# Altium schematic symbol library board.SCHLIB: 471 symbols (part 2 of 5)
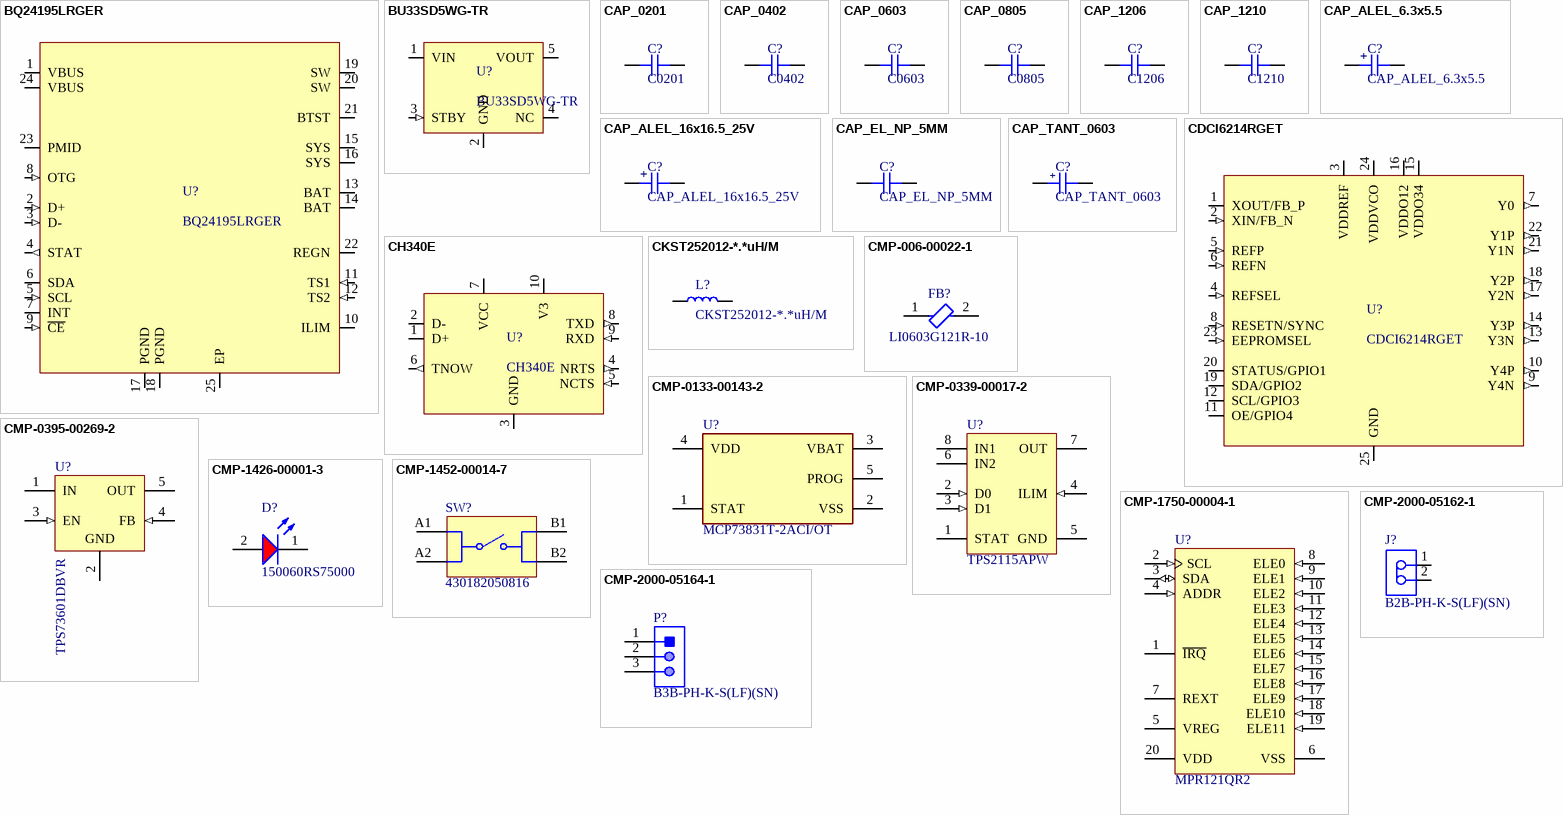
[diagram p30: symbols BQ24195LRGER to CMP-2000-05164-1]

## CMP-0395-00269-2
designator U?, comment TPS73601DBVR
Single Output Low Noise LDO, 400 mA, Adjustable 1.2 to 5.5 V Output, 1.7 to 5.5 V Input, with Reverse Current Protection, 5-pin SOT-23 (DBV), -40 to 85 degC, Green (RoHS & no Sb/Br); Manufacturer: Texas Instruments; Vout Adj(Min)(V): 1.2; Iq(Typ)(mA): 0.3; Accuracy(%): 1; Vin(Max)(V): 5.5; Vdo(Typ)(mV): 75; Iout(Max)(A): 0.4; SubFamily: Single Channel LDO; Rating: Catalog; Vin(Min)(V): 1.7; ComponentLink2Description: Datasheet; ComponentLink3URL: http://www.ti.com/litv/pdf/mpds018i; ComponentLink3Description: Package Specification; Code_JEDEC: MO-178; PackageDescription: 5-Pin Plastic Small Outline, Body 1.60 Ãƒâ€” 2.90 mm, Pitch 0.95 mm; Mounting Technology: Surface Mount; ComponentLink1URL: http://www.ti.com/; ComponentLink2URL: http://www.ti.com/general/docs/lit/getliterature.tsp?genericPartNumber=TPS73601&fileType=pdf; ComponentLink1Description: Manufacturer URL; PackageReference: DBV0005A; PartNumber: TPS73601DBVR; PackageVersion: 4073253-4/K; Eco-Plan: Green (RoHS & no Sb/Br); ComponentLink4URL: Samples URL:http://www.ti.com/product/tps73601#samples; Vout Adj(Max)(V): 5.5; ComponentLink4Description: URL Link1; DatasheetVersion: SBVS038T; Manufacturer Part Number: TPS73601DBVR
footprint DBV0005A_N (SOT23, 5-Leads, Body 3.05x1.75mm, Pitch 0.95mm, IPC Medium Density)
footprint DBV0005A_L (SOT23, 5-Leads, Body 3.05x1.75mm, Pitch 0.95mm, IPC High Density)
footprint DBV0005A_M (SOT23, 5-Leads, Body 3.05x1.75mm, Pitch 0.95mm, IPC Low Density)
pins: 1 IN (power) "Input pin. A small capacitor is needed from this pin to ground to assure stability. Typical input capacitor = 1.0uF. Both input and output capacitor grounds should be tied back to the IC ground with no significant impedance (See Datasheet)", 2 GND (power) "Ground pin.", 3 EN (in) "Driving the enable pin (EN) over 1.2V turns on the regulator. Driving this pin below 0.4V puts the regulator into shutdown mode, reducing operating current to 18nA typical.", 4 FB (in) "Feedback pin (FB) for adjustable versions", 5 OUT (power) "Regulated output voltage pin. A small 1-uF ceramic capacitor is needed from this pin to ground to assure stability.See Input and Output Capacitor Requirements in the Application Information section for more details."

## CMP-1426-00001-3
designator D?, comment 150060RS75000
NexarPartId: 29717776; Manufacturer: Wurth Electronics; Color: Red; Power Dissipation: 72mW; Max Reverse Voltage (DC): 5V; Peak Wavelength: 630nm; Viewing Angle: 140°; Forward Voltage: 2V; Luminous Intensity: 250mcd; Forward Current: 100mA; Dominant Wavelength: 625nm; Lens Style: Clear, Rectangular; Max Junction Temperature (Tj): 95°C; Test Current: 20mA; Mount: Surface Mount; Packaging: Tape and Reel; Case Code (Metric): 1608; Max Operating Temperature: 85°C; Case Code (Imperial): 0603; REACH SVHC: Unknown; Width: 800µm; Length: 1.6mm; Reverse Voltage: 5V; Height: 700µm; Case/Package: 0603; RoHS: Compliant; Wavelength: 625nm; Min Operating Temperature: -40°C; Manufacturer Part Number: 150060RS75000
footprint WL-SMCW_0603_150060xx75000 (WL-SMCW SMT Mono-Color Chip LED Waterclear)
pins: 1 K, 2 A

## CMP-1452-00014-7
designator SW?, comment 430182050816
NexarPartId: 22866491; Manufacturer: Wurth Electronics; Mechanical Life: 1Mcycles; Contact Resistance: 100mΩ; Actuator Length: 1.6mm; Illumination Type: Illuminated, Non-Illuminated; Actuator Material: Liquid Crystal Polymer, Polymer; Switch Function: Off-Mom; Contact Current Rating: 50mA; Throw Configuration: SPST; Switch Travel: 250µm; Voltage Rating: 12V; Min Operating Temperature: -40°C; Color: Black; Max Operating Temperature: 85°C; Life (Cycles): 1Mcycles; Width: 6.2mm; REACH SVHC: No SVHC; Contact Material: Stainless Steel, Steel; Mount: Surface Mount; Height: 5mm; Contact Plating: Silver; Termination: Gull Wing; Diameter: 3.5mm; Lead Free: Lead Free; Voltage Rating (DC): 12V; Packaging: Tape and Reel; Length: 6.2mm; Current Rating: 50mA; Insulation Resistance: 100MΩ; RoHS: Compliant; Manufacturer Part Number: 430182050816
footprint WS-TASV_L6W6H5_4301x20508x6 (Switch Tactile Spst-no 0.05A 12V)
pins: A1, A2, B1, B2

## CMP-1750-00004-1
designator U?, comment MPR121QR2
Proximity Capacitive Touch Sensor Controller, 1.71 to 3.6 V, -40 to 85 degC, 20-Pin QFN, RoHS, Tape and Reel; Manufacturer: NXP Freescale; Current Rating: 2 A; Voltage Rating: 750 V; PackageDescription: 20-Pin Quad Flat No-lead Package, Body 3 x 3 mm, Pitch 0.4 mm; ComponentLink1URL: http://www.nxp.com/; Radiation Hardening: No; RoHSCompliant: True; Package Quantity: 22; Height: 8.64 mm; Min Operating Temperature: -65degC; Max Operating Temperature: 105degC; Mount: Through Hole; ComponentLink1Description: Manufacturer URL; Lead Pitch: 2.54 mm; Width: 3.56 mm; DatasheetVersion: Rev. 4, 02/2013; Length: 25.4 mm; Colour: Black; Pins: 10; Contact Finish: Gold; ComponentLink2Description: Datasheet; Packaging: Rail/Tube; Contact Plating: Gold; ComponentLink2URL: http://www.nxp.com/files/sensors/doc/data_sheet/MPR121.pdf; PackageReference: QFN-20; Contact Material: Bronze; Manufacturer Part Number: MPR121QR2
footprint FREE-QFN-20_L (QFN, 20-Leads, Body 3.00x3.00mm, Pitch 0.40mm, IPC High Density)
footprint FREE-QFN-20_N (QFN, 20-Leads, Body 3.00x3.00mm, Pitch 0.40mm, IPC Medium Density)
footprint FREE-QFN-20_M (QFN, 20-Leads, Body 3.00x3.00mm, Pitch 0.40mm, IPC Low Density)
pins: 1 ~{IRQ} (oc) "Open Collector Interrupt Output Pin, active low", 2 SCL (in) "I2C Clock", 3 SDA (io) "I2C Data", 4 ADDR (in) "I2C Address Select Input Pin.", 5 VREG (power) "Internal Regulator Node - Connect a 0.1 uF bypass cap to VSS", 6 VSS (power) "Ground", 7 REXT "External Resistor - Connect a 75 kOhm 1% resistor to VSS to set internal reference current", 8 ELE0 (in) "Electrode 0", 9 ELE1 (in) "Electrode 1", 10 ELE2 (in) "Electrode 2", 11 ELE3 (in) "Electrode 3", 12 ELE4 (in) "Electrode 4", 13 ELE5 (in) "Electrode 5", 14 ELE6 (in) "Electrode 6", 15 ELE7 (in) "Electrode 7", 16 ELE8 (in) "Electrode 8", 17 ELE9 (in) "Electrode 9", 18 ELE10 (in) "Electrode 10", 19 ELE11 (in) "Electrode 11", 20 VDD (power) "Connect a 0.1 uF bypass cap to VSS"

## CMP-2000-05162-1
designator J?, comment B2B-PH-K-S(LF)(SN)
Male Header, Pitch 2 mm, 1 x 2 Position, Height 6 mm, Tail Length 3.4 mm, -25 to 85 degC, RoHS, Bulk; Manufacturer: JST; Manufacturer Part Number: B2BPHKSLFSN; Pitch: 2mm; Style/Orientation: StraightHeader/Plug; No of Positions: 2; Datasheet Version: Nov-08; Datasheet URL: http://datasheet.octopart.com/B2B-PH-K-S%28LF%29%28SN%29-JST-datasheet-8324864.pdf; Manufacturer URL: http://www.jst.com/home2.html; Type: ShroudedHeader; Termination: Crimp
footprint JST-B2B-PH-K-S_V (Connector, 2-Leads, Body 5.9x4.5mm, Pitch 2mm)
pins: 1, 2

## CMP-2000-05164-1
designator P?, comment B3B-PH-K-S(LF)(SN)
Male Header, Pitch 2 mm, 1 x 3 Position, Height 6 mm, Tail Length 3.4 mm, -25 to 85 degC, RoHS, Bulk; Manufacturer: JST; Style/Orientation: StraightHeader/Plug; Pitch: 2mm; No of Positions: 3; Termination: Crimp; Manufacturer URL: http://www.jst.com/home2.html; Datasheet Version: Oct-06; Type: ShroudedHeader; Datasheet URL: https://datasheet.ciiva.com/11746/0900766b80826550-11746939.pdf; Manufacturer Part Number: B3B-PH-K-S(LF)(SN)
footprint JST-B3B-PH-K-S-3_V (Connector, 3-Leads, Body 7.9x4.5mm, Pitch 2mm)
pins: 1, 2, 3

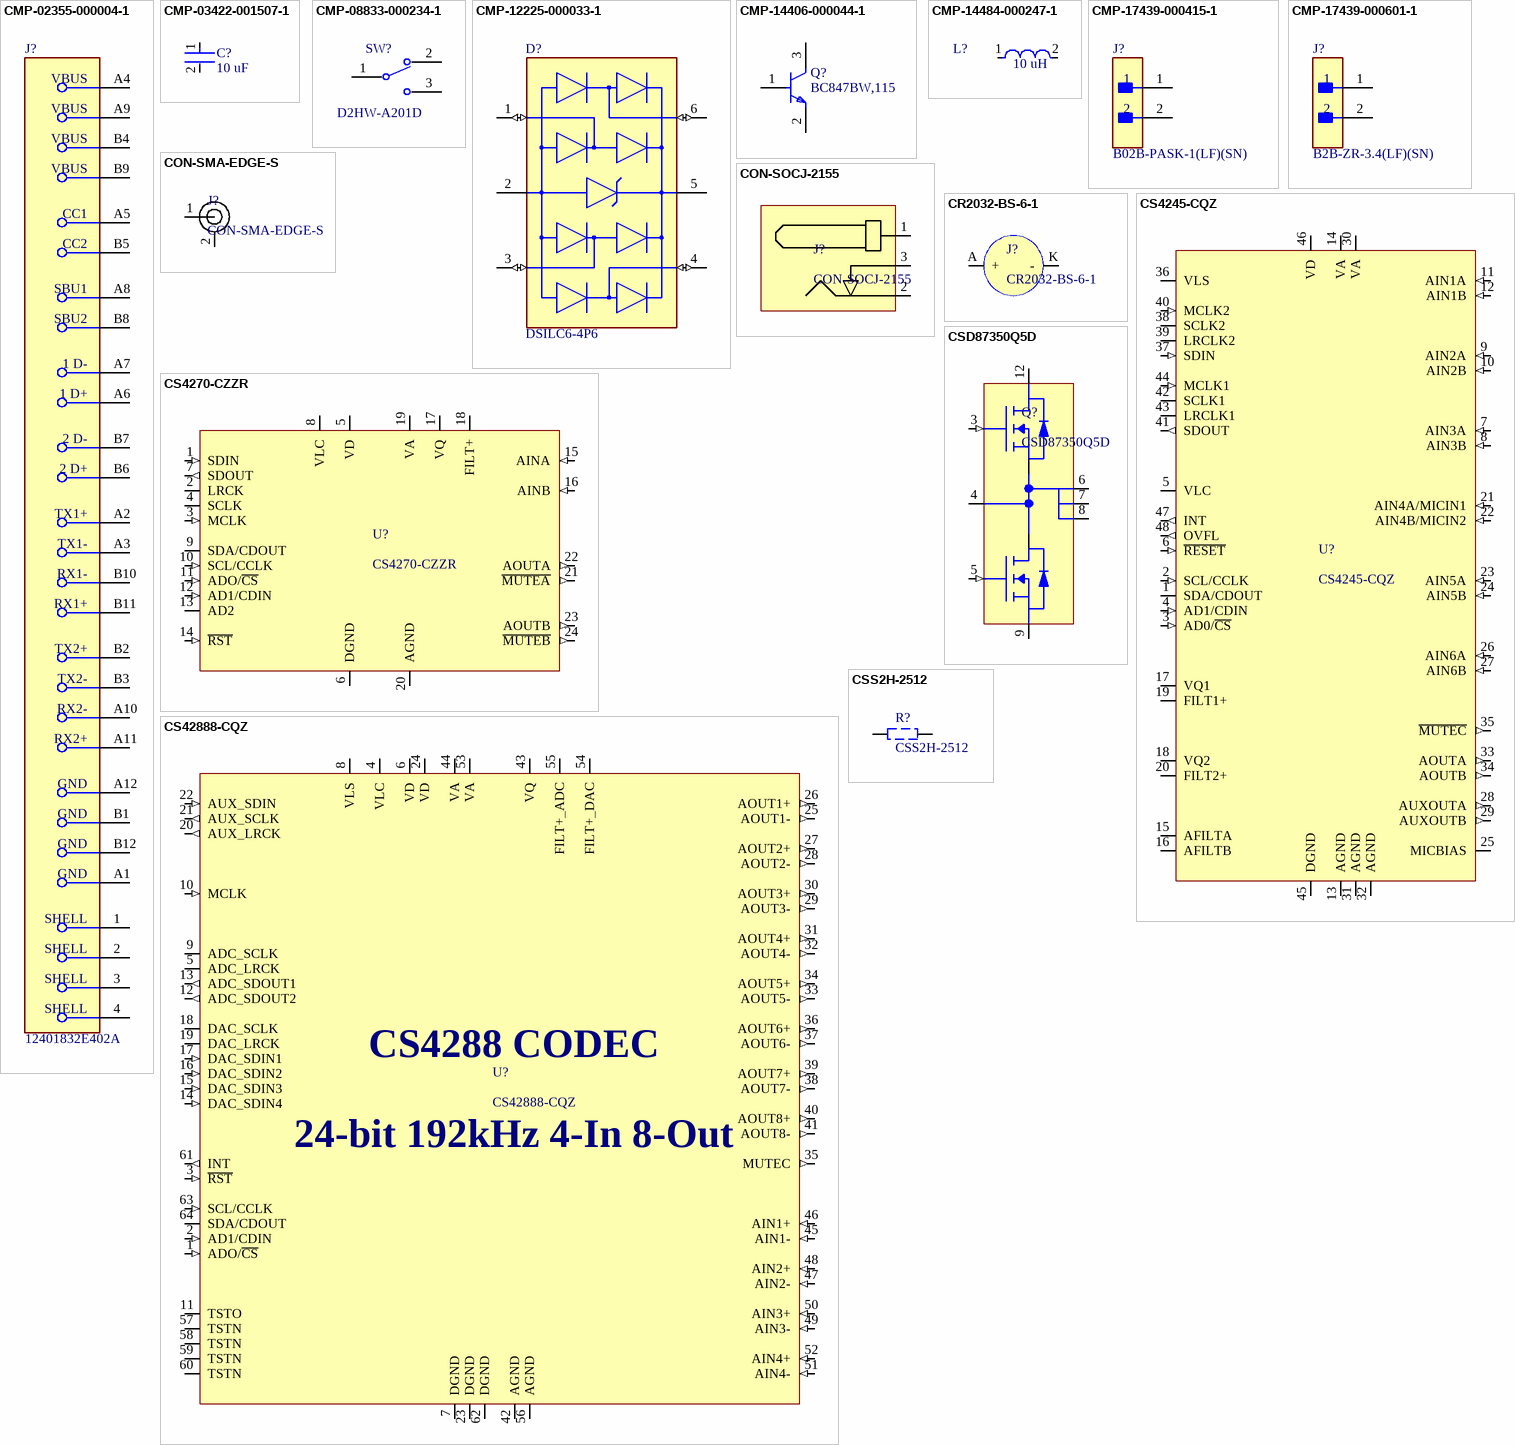
[diagram p7: symbols CMP-02355-000004-1 to CSS2H-2512]

## CMP-02355-000004-1
designator J?, comment 12401832E402A
CONN RCP USB3.1 TYPEC 24P SMD RA; Manufacturer: Amphenol; Manufacturer Part Number: 12401832E402A
footprint FP-12401832E402A-MFG
pins: 1 SHELL (power), 2 SHELL, 3 SHELL, 4 SHELL (power), A1 GND, A2 TX1+, A3 TX1-, A4 VBUS, A5 CC1 (power), A6 1 D+, A7 1 D-, A8 SBU1 (power), A9 VBUS (power), A10 RX2-, A11 RX2+, A12 GND (power), B1 GND, B2 TX2+, B3 TX2-, B4 VBUS, B5 CC2 (power), B6 2 D+, B7 2 D-, B8 SBU2 (power), B9 VBUS (power), B10 RX1- (power), B11 RX1+ (power), B12 GND (power)

## CMP-03422-001507-1
designator C?, comment 10 uF
CAP CER 10UF 10V X5R 0603; Manufacturer: Yageo; Manufacturer Part Number: CC0603KRX5R6BB106; Tolerance: 10%; Case/Package: 0603; Length: 0.063inch; Capacitance: 10uF; Dielectric: X5R; Mount: Surface Mount; Case Code (Metric): 1608; Depth: 0.8mm; Voltage Rating (DC): 10V; Voltage Rating: 10V; Lead Free: Lead Free; Resistor Type: Ceramic; Packaging: Tape and Reel; Max Operating Temperature: 85°C; Termination: SMD/SMT; Min Operating Temperature: -55°C; Weight: 7.1E-05oz; Thickness: 0.035inch; Case Code (Imperial): 0603; Package Quantity: 4000; Halogen Free: Halogen Free; RoHS Compliant: Yes; Width: 0.031inch
footprint FP-CC0603-DC-IPC_A
footprint FP-CC0603-DC-IPC_B
footprint FP-CC0603-DC-IPC_C
footprint FP-CC0603-DC-MFG
pins: 1, 2

## CMP-08833-000234-1
designator SW?, comment D2HW-A201D
SWITCH SNAP ACT SPDT 100MA 125V; Manufacturer: Omron; Mechanical Life: 1000000Cycles; Actuator Type: PIN PLUNGER; Contact Current Rating: 2A; Number of Positions: 2; Operating Position: 0.409inch; Operating Force: 0.75N; Differential Travel: 0.01inch; Number of Poles: 1; Electrical Life: 100000Cycles; Max Voltage Rating (DC): 42V; Overtravel: 0.055inch; Insulation Resistance: 100MR; Switch Function: On-Mom; Ratings: IP67; Voltage Rating (DC): 12V; Lead Length: 2.5mm; Contact Material: Gold; Voltage Rating (AC): 125V; Min Operating Temperature: -40°C; Depth: 5.3mm; Mount: Through Hole; Orientation: Straight; Packaging: Bulk; Lead Free: Lead Free; Max Current Rating: 2A; Throw Configuration: SPDT; Termination: PC Pins; Contact Plating: Gold; Max Voltage Rating (AC): 125V; Length: 13.3mm; Current Rating: 2A; Series: D2HW; Max Operating Temperature: 85°C; Package Quantity: 500; Weight: 0.7g; RoHS Compliant: Yes; Manufacturer Part Number: D2HW-A201D
footprint FP-D2HW-A201D-MFG
pins: 1 COM, 2 NC, 3 NO

## CMP-12225-000033-1
designator D?, comment DSILC6-4P6
TVS DIODE 5V SOT666; Manufacturer: STMicroelectronics; Number Of Channels: 4; Breakdown Voltage: 6V; Direction: Unidirectional; Peak Pulse Power: 90W; Capacitance: 1.5pF; Max Junction Temp: +125°C; Peak Pulse Current: 5A; Value: 1.5pF; Mouser Description: DSILC6 Series 4 Channel 6 V Uni-Directional Diode Array - SOT-666; Device Class L2: TVS Diodes; ComponentLink2URL: https://www.st.com/resource/en/datasheet/dsilc6-4xx.pdf; Category: Diode; Automotive: No; Lead Free: Yes; ComponentLink2Description: Datasheet; Octopart: https://octopart.com/dsilc6-4p6-stmicroelectronics-660265; Reverse Standoff Voltage: 5V; Height: 0.6mm; Package: SOT-666; Device Class L3: unset; Manufacturer Part Number: DSILC6-4P6; Temperature: to +125°C; Digikey Description: TVS DIODE 5V SOT666; Temperature Range High: +125°C; RoHS: TRUE; Device Class L1: Circuit Protection
footprint FP-SOT-666-MFG
pins: 1 I/O1 (io), 2 GND (power), 3 I/O2 (io), 4 I/O3 (io), 5 VCC (power), 6 I/O4 (io)

## CMP-14406-000044-1
designator Q?, comment BC847BW,115
TRANS NPN 45V 100MA SOT323; Manufacturer: Nexperia; RoHS Compliant: Yes; Manufacturer Part Number: BC847BW,115
footprint FP-SOT323-MFG
footprint FP-SOT323-IPC_C
footprint FP-SOT323-IPC_B
footprint FP-SOT323-IPC_A
pins: 1 B, 2 E, 3 C

## CMP-14484-000247-1
designator L?, comment 10 uH
SMD Inductors 10uH ±10% 0.38A 0.468Ω 0603; Manufacturer: Taiyo Yuden; Manufacturer Part Number: CBMF1608T100K; Saturation Current: 115mA; Max DC Current: 380mA; DC Resistance (DCR): 468mR; Shielding: Unshielded; Core Material: Ferrite; Self Resonant Frequency: 32MHz; Test Frequency: 2.52MHz; RoHS Compliant: Yes; Case Code (Metric): 1608; Height: 0.8mm; Inductance Tolerance: 10%; Series: CB; Packaging: Tape and Reel; Width: 0.031inch; Case Code (Imperial): 0603; Tolerance: 10%; Radiation Hardening: No; Inductance: 10uH; Resistor Type: Wirewound; Termination: SMD/SMT; Height - Seated (Max): 0.039inch; Mount: Surface Mount; Halogen Free: Halogen Free; Min Operating Temperature: -40°C; Current Rating: 380mA; Lead Free: Lead Free; DC Current: 380mA; Package Quantity: 3000; Case/Package: 0603; Length: 0.063inch; Max Operating Temperature: 105°C; Depth: 1mm; Military Standard: Not
footprint FP-CBMF1608-IPC_A
footprint FP-CBMF1608-IPC_C
footprint FP-CBMF1608-MFG
footprint FP-CBMF1608-IPC_B
pins: 1, 2

## CMP-17439-000415-1
designator J?, comment B02B-PASK-1(LF)(SN)
CONN HEADER VERT 2POS 2MM; Manufacturer: JST; Number of Contacts: 2; Current Rating: 3A; Insulation Resistance: 1GR; Mated Stacking Heights: 14.9mm; Voltage Rating: 250V; Gender: Male; Pitch: 2mm; Orientation: Straight; Contact Finish - Mating: TIN; Mount: Through Hole; Contact Type: Male Pin; Number of Rows: 1; Fastening Type: Ramp; Series: PA; Connector Type: Header; Insulation Color: Natural; Flammability Rating: UL94 V-0; Material: Polybutylene; Contact Shape: Square; Contact Plating: Tin; Insulation Material: PBT; Max Operating Temperature: 85°C; Housing Color: White; Number of Positions: 2; Contact Material: Copper Alloy; Min Operating Temperature: -25°C; Lead Free: Lead Free; Contact Mating Length: 0.126inch; Termination: Solder; Packaging: Bulk; Color: Natural; Manufacturer Part Number: B02B-PASK-1(LF)(SN)
footprint FP-B02B-PASK-1_LF_SN-MFG
pins: 1, 2

## CMP-17439-000601-1
designator J?, comment B2B-ZR-3.4(LF)(SN)
CONN HEADER VERT 2POS 1.5MM; Manufacturer: JST; Mated Stacking Heights: 5.6mm; Voltage Rating: 50V; Number of Positions: 2; Termination: Press-Fit; Insulation Color: Natural; Pitch: 1.5mm; Number of Rows: 1; Fastening Type: Detent; Insulation Material: Nylon; Contact Shape: Circular; Lead Free: Lead Free; Series: ZH; Connector Type: Header; Contact Type: Male Pin; Packaging: Bulk; Contact Finish - Mating: TIN; Mount: Through Hole; Contact Material: Brass; Flammability Rating: UL94 V-0; Manufacturer Part Number: B2B-ZR-3.4(LF)(SN)
footprint FP-B2B-ZR-3_4_LF_SN-MFG
pins: 1, 2

## CON-SMA-EDGE-S
designator J?
RF Connector SMA Female 50 Ohms 18 GHz PCB Edge Mount; Manufacturer: RF Solutions; Manufacturer Part Number: CON-SMA-EDGE-S
footprint CON-SMA-EDGE-S
pins: 1, 2

## CON-SOCJ-2155
designator J?
DC Barrell Jack 2.1mm 30V 2.5A THT; Manufacturer: Gravitech; Manufacturer Part Number: CON-SOCJ-2155
footprint CON-SOCJ-2155
pins: 1, 2, 3

## CR2032-BS-6-1
designator J?
CR2032 Coin Cell Battery Holder; Manufacturer: Q&J; Manufacturer Part Number: CR2032-BS-6-1
footprint CR2032
pins: A +, K -

## CS4245-CQZ
designator U?
104 dB, 24-Bit, 192 kHz Stereo Audio Codec; Manufacturer: Cirrus Logic; Manufacturer Part Number: CS4245-CQZ
footprint LQFP-48
pins: 1 SDA/CDOUT (io), 2 SCL/CCLK (in), 3 AD0/~{CS} (in), 4 AD1/CDIN (in), 5 VLC (power), 6 ~{RESET} (in), 7 AIN3A (in), 8 AIN3B (in), 9 AIN2A (in), 10 AIN2B (in), 11 AIN1A (in), 12 AIN1B (in), 13 AGND (power), 14 VA (power), 15 AFILTA (power), 16 AFILTB (power), 17 VQ1 (power), 18 VQ2 (power), 19 FILT1+ (power), 20 FILT2+ (power), 21 AIN4A/MICIN1 (in), 22 AIN4B/MICIN2 (in), 23 AIN5A (in), 24 AIN5B (in), 25 MICBIAS (power), 26 AIN6A (in), 27 AIN6B (in), 28 AUXOUTA (out), 29 AUXOUTB (out), 30 VA (power), 31 AGND (power), 32 AGND (power), 33 AOUTA (out), 34 AOUTB (out), 35 ~{MUTEC} (out), 36 VLS (power), 37 SDIN (in), 38 SCLK2 (io), 39 LRCLK2 (io), 40 MCLK2 (in), 41 SDOUT (out), 42 SCLK1 (io), 43 LRCLK1 (io), 44 MCLK1 (in), 45 DGND (power), 46 VD (power), 47 INT (out), 48 OVFL (out)

## CS4270-CZZR
designator U?
24-Bit 192kHz Stereo Audio Codec TSSOP-24; Manufacturer: Cirrus Logic; Manufacturer Part Number: CS4270-CZZR
footprint TSSOP-24
pins: 1 SDIN (in), 2 LRCK (io), 3 MCLK (in), 4 SCLK (io), 5 VD (power), 6 DGND (power), 7 SDOUT (out), 8 VLC (power), 9 SDA/CDOUT (io), 10 SCL/CCLK (in), 11 ADO/~{CS} (in), 12 AD1/CDIN (in), 13 AD2, 14 ~{RST} (in), 15 AINA (in), 16 AINB (in), 17 VQ (power), 18 FILT+ (power), 19 VA (power), 20 AGND (power), 21 ~{MUTEA} (out), 22 AOUTA (out), 23 AOUTB (out), 24 ~{MUTEB} (out)

## CS42888-CQZ
designator U?
CODEC 108dB 192kHz 4-In 8-Out LQFP-64 Commercial Grade; Manufacturer: Cirrus Logic; Manufacturer Part Number: CS42888-CQZ
footprint LQFP-64-0.5mm (TSQFP, 64-Leads, Body 10.00x10.00mm, Pitch 0.50mm, IPC Medium Density)
pins: 1 ADO/~{CS} (in), 2 AD1/CDIN (in), 3 ~{RST} (in), 4 VLC (power), 5 ADC_LRCK (io), 6 VD (power), 7 DGND (power), 8 VLS (power), 9 ADC_SCLK (io), 10 MCLK (in), 11 TSTO, 12 ADC_SDOUT2 (out), 13 ADC_SDOUT1 (out), 14 DAC_SDIN4 (in), 15 DAC_SDIN3 (in), 16 DAC_SDIN2 (in), 17 DAC_SDIN1 (in), 18 DAC_SCLK (io), 19 DAC_LRCK (io), 20 AUX_LRCK (out), 21 AUX_SCLK (out), 22 AUX_SDIN (in), 23 DGND (power), 24 VD (power), 25 AOUT1- (out), 26 AOUT1+ (out), 27 AOUT2+ (out), 28 AOUT2- (out), 29 AOUT3- (out), 30 AOUT3+ (out), 31 AOUT4+ (out), 32 AOUT4- (out), 33 AOUT5- (out), 34 AOUT5+ (out), 35 MUTEC (out), 36 AOUT6+ (out), 37 AOUT6- (out), 38 AOUT7- (out), 39 AOUT7+ (out), 40 AOUT8+ (out), 41 AOUT8- (out), 42 AGND (power), 43 VQ (power), 44 VA (power), 45 AIN1- (in), 46 AIN1+ (in), 47 AIN2- (in), 48 AIN2+ (in), 49 AIN3- (in), 50 AIN3+ (in), 51 AIN4- (in), 52 AIN4+ (in), 53 VA (power), 54 FILT+_DAC (power), 55 FILT+_ADC (power), 56 AGND (power), 57 TSTN, 58 TSTN, 59 TSTN, 60 TSTN, 61 INT (out), 62 DGND (power), 63 SCL/CCLK (in), 64 SDA/CDOUT (io)
text: CS4288 CODEC; 24-bit 192kHz 4-In 8-Out

## CSD87350Q5D
designator Q?
Synchronous Buck NexFET™ Power Block; Manufacturer: Texas Instruments; Manufacturer Part Number: CSD87350Q5D; Distributor Link: https://eu.mouser.com/ProductDetail/Texas-Instruments/CSD87350Q5D?qs=JoYuLptCJEEhVuDl%2F9%2FpHA%3D%3D; LCSC: C140356
footprint LSON-CLIP-8
pins: 3 TG (in), 4 TGR, 5 BG (in), 6 VSW (power), 7 VSW (power), 8 VSW (power), 9 PGND (power), 12 VIN (power), D, S

## CSS2H-2512
designator R?
Current Sense Resistor SMD CSS2H-2512; Manufacturer: Bourns; Manufacturer Part Number: CSS2H-2512
footprint CSS2H-2512
pins: 1, 2

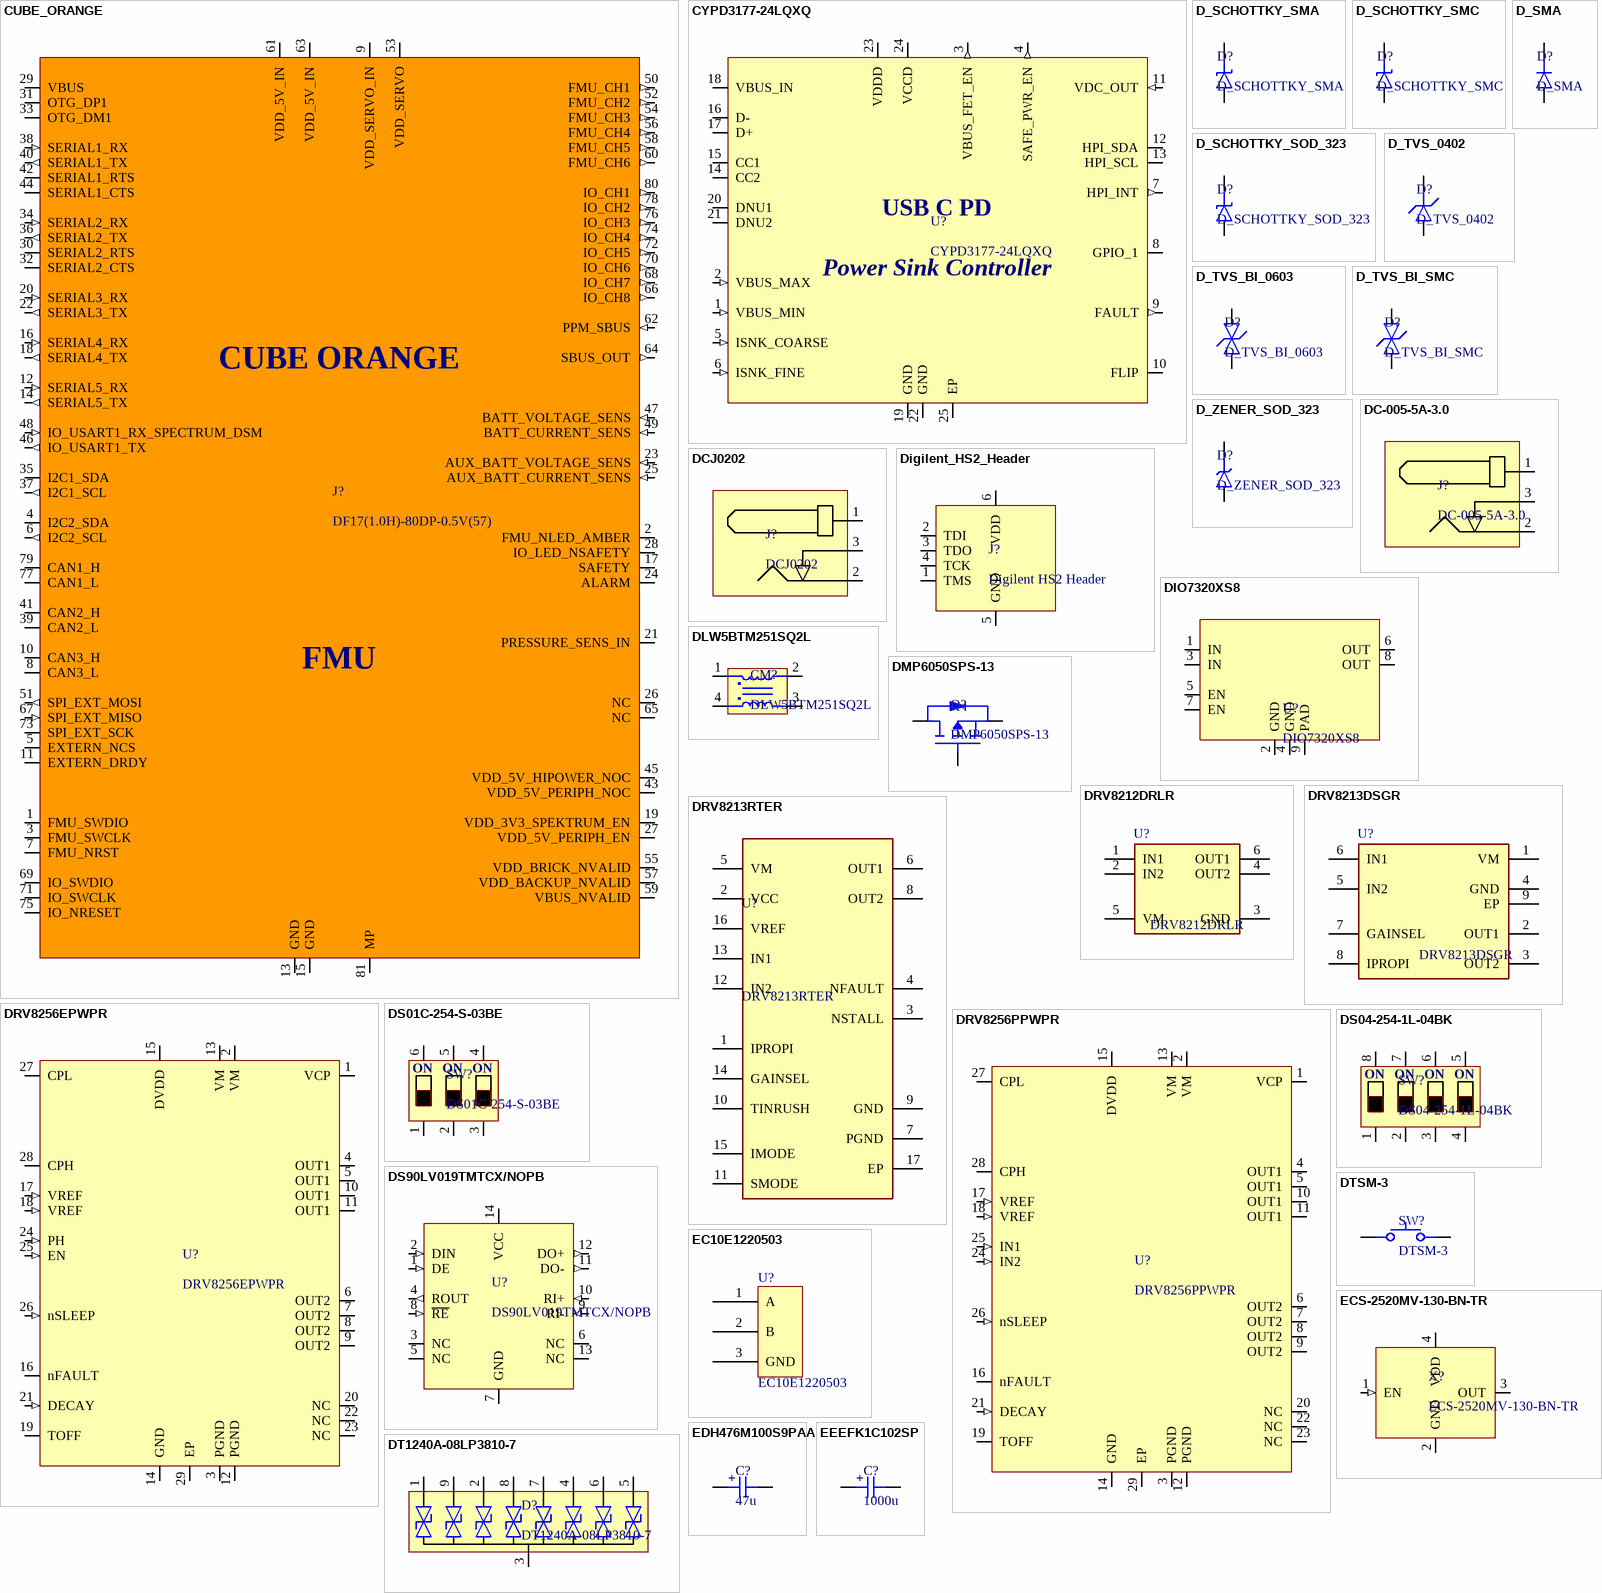
[diagram p8: symbols CUBE_ORANGE to EEEFK1C102SP]

## CUBE_ORANGE
designator J?, comment DF17(1.0H)-80DP-0.5V(57)
Cube Orange Pinout (Hirose DF17(1.0H)-80DP-0.5V(57) Connector); Manufacturer: Hirose; Manufacturer Part Number: DF17(1.0H)-80DP-0.5V(57)
footprint CUBE_ORANGE
pins: 1 FMU_SWDIO, 2 FMU_NLED_AMBER, 3 FMU_SWCLK, 4 I2C2_SDA (io), 5 EXTERN_NCS, 6 I2C2_SCL (out), 7 FMU_NRST, 8 CAN3_L (io), 9 VDD_SERVO_IN, 10 CAN3_H (io), 11 EXTERN_DRDY, 12 SERIAL5_RX (in), 13 GND, 14 SERIAL5_TX (out), 15 GND, 16 SERIAL4_RX (in), 17 SAFETY, 18 SERIAL4_TX (out), 19 VDD_3V3_SPEKTRUM_EN, 20 SERIAL3_RX (in), 21 PRESSURE_SENS_IN, 22 SERIAL3_TX (out), 23 AUX_BATT_VOLTAGE_SENS (in), 24 ALARM, 25 AUX_BATT_CURRENT_SENS (in), 26 NC, 27 VDD_5V_PERIPH_EN, 28 IO_LED_NSAFETY, 29 VBUS, 30 SERIAL2_RTS, 31 OTG_DP1 (io), 32 SERIAL2_CTS, 33 OTG_DM1 (io), 34 SERIAL2_RX (in), 35 I2C1_SDA (io), 36 SERIAL2_TX (out), 37 I2C1_SCL (out), 38 SERIAL1_RX (in), 39 CAN2_L (io), 40 SERIAL1_TX (out), 41 CAN2_H (io), 42 SERIAL1_RTS, 43 VDD_5V_PERIPH_NOC, 44 SERIAL1_CTS, 45 VDD_5V_HIPOWER_NOC, 46 IO_USART1_TX (out), 47 BATT_VOLTAGE_SENS (in), 48 IO_USART1_RX_SPECTRUM_DSM (in), 49 BATT_CURRENT_SENS (in), 50 FMU_CH1 (out), 51 SPI_EXT_MOSI (out), 52 FMU_CH2 (out), 53 VDD_SERVO, 54 FMU_CH3 (out), 55 VDD_BRICK_NVALID, 56 FMU_CH4 (out), 57 VDD_BACKUP_NVALID, 58 FMU_CH5 (out), 59 VBUS_NVALID, 60 FMU_CH6 (out), 61 VDD_5V_IN, 62 PPM_SBUS (in), 63 VDD_5V_IN, 64 SBUS_OUT (out), 65 NC, 66 IO_CH8 (out), 67 SPI_EXT_MISO (in), 68 IO_CH7 (out), 69 IO_SWDIO, 70 IO_CH6 (out), 71 IO_SWCLK, 72 IO_CH5 (out), 73 SPI_EXT_SCK, 74 IO_CH4 (out), 75 IO_NRESET, 76 IO_CH3 (out), 77 CAN1_L (io), 78 IO_CH2 (out), 79 CAN1_H (io), 80 IO_CH1 (out), 81 MP
text: CUBE ORANGE; FMU

## CYPD3177-24LQXQ
designator U?
USB Type-C Port Controller for Power Sinks; Manufacturer: Cypress Semicon; Manufacturer Part Number: CYPD3177-24LQXQ; Distributor Link: https://www.lcsc.com/product-detail/USB-ICs_Cypress-Semicon-CYPD3177-24LQXQ_C2959321.html
footprint QFN-24-0MM5
pins: 1 VBUS_MIN (in), 2 VBUS_MAX (in), 3 VBUS_FET_EN (out), 4 SAFE_PWR_EN (out), 5 ISNK_COARSE (in), 6 ISNK_FINE (in), 7 HPI_INT (out), 8 GPIO_1 (io), 9 FAULT (out), 10 FLIP (oc), 11 VDC_OUT (in), 12 HPI_SDA (oc), 13 HPI_SCL (oc), 14 CC2 (io), 15 CC1 (io), 16 D-, 17 D+, 18 VBUS_IN (power), 19 GND (power), 20 DNU1, 21 DNU2, 22 GND (power), 23 VDDD (power), 24 VCCD (power), 25 EP (power)
text: USB C PD; Power Sink Controller

## D_SCHOTTKY_SMA
designator D?
Diode Schottky SMD SMA (DO-214AA)
footprint DO-214AC-2 (SMA)
pins: A, K

## D_SCHOTTKY_SMC
designator D?
Diode Schottky SMD SMC (DO-214AB); Distributor Link: *
footprint SMC-DO-214AB
pins: A, K

## D_SCHOTTKY_SOD_323
designator D?
Diode Schottky SMD SOD-323
footprint SOD-323
pins: A, K

## D_SMA
designator D?
Diode SMD SMA (DO-214AA)
footprint DO-214AC-2 (SMA)
pins: A, K

## D_TVS_0402
designator D?
Diode TVS / ESD 0402
footprint D_0402
pins: A, K

## D_TVS_BI_0603
designator D?
Diode TVS / ESD Bidirectional 0603; Manufacturer: *; Manufacturer Part Number: *
footprint D_0603
pins: A, K

## D_TVS_BI_SMC
designator D?
Diode TVS / ESD Bidirectional SMC (DO-214AB); Manufacturer: *; Manufacturer Part Number: *; Distributor Link: *
footprint SMC-DO-214AB
pins: A, K

## D_ZENER_SOD_323
designator D?
Diode Zener SMD SOD-323
footprint SOD-323
pins: A, K

## DC-005-5A-3.0
designator J?
DC Barrell Jack 6.2mm 5 A3.0mm Through Hole; Parameter 1: XKB; Parameter 2: DC-005-5A-3.0
footprint DC-005-5A-3.0
pins: 1, 2, 3

## DCJ0202
designator J?
DC Barrell Jack 2.1mm 24V 5A THT; Manufacturer: CONEC; Manufacturer Part Number: DCJ0202
footprint DCJ0202
pins: 1, 2, 3

## Digilent_HS2_Header
designator J?, comment Digilent HS2 Header
Digilent HS2 6-Pin 2.54mm Pitch Header; Manufacturer: Amphenol FCI; Manufacturer Part Number: 68000-406HLF
footprint DIGILENT_HS2
pins: 1 TMS, 2 TDI, 3 TDO, 4 TCK, 5 GND (power), 6 VDD (power)

## DIO7320XS8
designator U?
Power Distribution 5.5V 5A Load switch with slew rate control and reverse current blocking; Manufacturer: DIOO; Manufacturer Part Number: DIO7320XS8
footprint SOIC127P600X165_HS-9N (SOIC, 8-Leads, Body 4.90x3.90mm, Pitch 1.27mm, Thermal Pad 3.10x2.21mm, IPC Medium Density)
pins: 1 IN, 2 GND, 3 IN, 4 GND, 5 EN, 6 OUT, 7 EN, 8 OUT, 9 PAD

## DLW5BTM251SQ2L
designator CM?
Common Mode Choke 5A 250R 20mR; Manufacturer: Murata; Manufacturer Part Number: DLW5BTM251SQ2L; Distributor Link: https://www.mouser.de/ProductDetail/Murata-Electronics/DLW5BTM251SQ2L?qs=6RPrPjhwTH9TmsO%252BRNiuwA%3D%3D; LCSC: C576407
footprint CMC-2020
pins: 1, 2, 3, 4

## DMP6050SPS-13
designator Q?
MOSFET P-Channel Vds=60V Vgs=+-20V Id=26A Rds(on|=50mOhms; Manufacturer: Diodes Incorporated; Manufacturer Part Number: DMP6050SPS-13
footprint PowerDI5060-8
pins: 1 D, 2 G, 3 S

## DRV8212DRLR
designator U?
Motor / Motion / Ignition Controllers & Drivers 12-V, 2-A Low voltage H-bridge motor driver; Manufacturer_Name: Texas Instruments; Geometry.Height: 0.6mm; Mouser Part Number: 595-DRV8212DRLR; Mouser Price/Stock: https://www.mouser.co.uk/ProductDetail/Texas-Instruments/DRV8212DRLR?qs=7D1LtPJG0i3wtDTC%2FUQdKg%3D%3D; Manufacturer_Part_Number: DRV8212DRLR; Datasheet Link: https://www.ti.com/lit/ds/symlink/drv8212.pdf?ts=1631761675954&ref_url=https%253A%252F%252Fwww.ti.com%252Fstore%252Fti%252Fen%252Fp%252Fproduct%252F%253Fp%253DDRV8212DRLR%2526keyMatch%253DDRV8212DRLR%2526tisearch%253Dsearch-everything%2526usecase%253DOPN
footprint SOTFL50P160X60-6N
pins: 1 IN1, 2 IN2, 3 GND, 4 OUT2, 5 VM, 6 OUT1

## DRV8213DSGR
designator U?
Motor Drives 11-V 4-A brushed DC motor driver with intergrated current sense, current regulation and stall detect 8-WSON -40 to 125; Manufacturer_Name: Texas Instruments; Geometry.Height: 0.8mm; Mouser Part Number: 595-DRV8213DSGR; Mouser Price/Stock: https://www.mouser.co.uk/ProductDetail/Texas-Instruments/DRV8213DSGR?qs=HoCaDK9Nz5fr9x8VVVVBBg%3D%3D; Manufacturer_Part_Number: DRV8213DSGR; Datasheet Link: https://www.ti.com/lit/ds/symlink/drv8213.pdf?ts=1703739910534&ref_url=https%253A%252F%252Fwww.ti.com.cn%252Fproduct%252Fcn%252FDRV8213
footprint SON50P200X200X80-9N
pins: 1 VM, 2 OUT1, 3 OUT2, 4 GND, 5 IN2, 6 IN1, 7 GAINSEL, 8 IPROPI, 9 EP

## DRV8213RTER
designator U?
Motor / Motion / Ignition Controllers & Drivers DUAL H-BRIDGE MOTOR DRIVER; Manufacturer_Name: Texas Instruments; Geometry.Height: 0.8mm; Mouser Part Number: 595-DRV8213RTER; Mouser Price/Stock: https://www.mouser.co.uk/ProductDetail/Texas-Instruments/DRV8213RTER?qs=Z%252BL2brAPG1IeTjuoL4HNsw%3D%3D; Manufacturer_Part_Number: DRV8213RTER; Datasheet Link: https://www.ti.com/lit/ds/symlink/drv8213.pdf
footprint QFN50P300X300X80-17N-D
pins: 1 IPROPI, 2 VCC, 3 NSTALL, 4 NFAULT, 5 VM, 6 OUT1, 7 PGND, 8 OUT2, 9 GND, 10 TINRUSH, 11 SMODE, 12 IN2, 13 IN1, 14 GAINSEL, 15 IMODE, 16 VREF, 17 EP

## DRV8256EPWPR
designator U?
H-Bridge Motor Driver With Integrated Current Sense, 4.5V to 48V, 8A; Manufacturer: Texas Instruments; Manufacturer Part Number: DRV8256EPWPR
footprint TSSOP-28-PowerPAD (TSOP, 28-Leads, Body 9.70x4.40mm, Pitch 0.65mm, Thermal Pad 4.05x3.10mm, IPC Medium Density)
pins: 1 VCP (power), 2 VM (power), 3 PGND (power), 4 OUT1 (power), 5 OUT1 (power), 6 OUT2 (power), 7 OUT2 (power), 8 OUT2 (power), 9 OUT2 (power), 10 OUT1 (power), 11 OUT1 (power), 12 PGND (power), 13 VM (power), 14 GND (power), 15 DVDD (power), 16 nFAULT (oc), 17 VREF (in), 18 VREF (in), 19 TOFF, 20 NC, 21 DECAY (in), 22 NC, 23 NC, 24 PH (in), 25 EN (in), 26 nSLEEP (in), 27 CPL (power), 28 CPH (power), 29 EP (power)

## DRV8256PPWPR
designator U?
H-Bridge Motor Driver With Integrated Current Sense, 4.5V to 48V, 8A; Manufacturer: Texas Instruments; Manufacturer Part Number: DRV8256PPWPR
footprint TSSOP-28-PowerPAD (TSOP, 28-Leads, Body 9.70x4.40mm, Pitch 0.65mm, Thermal Pad 4.05x3.10mm, IPC Medium Density)
pins: 1 VCP (power), 2 VM (power), 3 PGND (power), 4 OUT1 (power), 5 OUT1 (power), 6 OUT2 (power), 7 OUT2 (power), 8 OUT2 (power), 9 OUT2 (power), 10 OUT1 (power), 11 OUT1 (power), 12 PGND (power), 13 VM (power), 14 GND (power), 15 DVDD (power), 16 nFAULT (oc), 17 VREF (in), 18 VREF (in), 19 TOFF, 20 NC, 21 DECAY (in), 22 NC, 23 NC, 24 IN2 (in), 25 IN1 (in), 26 nSLEEP (in), 27 CPL (power), 28 CPH (power), 29 EP (power)

## DS01C-254-S-03BE
designator SW?
DIP Switch SPST 3 Positions Short Pins 2.54mm Pitch; Manufacturer: CUI Devices; Manufacturer Part Number: DS01C-254-S-03BE
footprint DS01C-254-S-03BE
pins: 1, 2, 3, 4, 5, 6
text: ON

## DS04-254-1L-04BK
designator SW?
DIP Switch SPST 4 Positions Short Pins 2.54mm Pitch; Manufacturer: CUI Devices; Manufacturer Part Number: DS04-254-1L-04BK; Distributor Link: https://www.mouser.de/ProductDetail/CUI-Devices/DS04-254-1L-04BK?qs=wnTfsH77Xs6GCysQKZgHrw%3D%3D
footprint DS04-254-1L-04BK
pins: 1, 2, 3, 4, 5, 6, 7, 8
text: ON

## DS90LV019TMTCX/NOPB
designator U?
LVDS Driver/Receiver; Manufacturer: Texas Instruments; Manufacturer Part Number: DS90LV019TMTCX/NOPB; Distributor Link: https://eu.mouser.com/ProductDetail/Texas-Instruments/DS90LV019TMTCX-NOPB?qs=X1J7HmVL2ZGfxU9NrWVkiA%3D%3D; LCSC: C87061
footprint TSSOP-14
pins: 1 DE (in), 2 DIN (in), 3 NC, 4 ROUT (out), 5 NC, 6 NC, 7 GND (power), 8 ~{RE} (in), 9 RI- (in), 10 RI+ (in), 11 DO- (out), 12 DO+ (out), 13 NC, 14 VCC (power)

## DT1240A-08LP3810-7
designator D?
8-CHANNEL LOW CAPACITANCE TVS DIODE ARRAY 0.6pF; Manufacturer: Diodes Incorporated; Manufacturer Part Number: DT1240A-08LP3810-7
footprint DFN3810B-9
pins: 1 L1, 2 L3, 3 GND (power), 4 L6, 5 L8, 6 L7, 7 L5, 8 L4, 9 L2

## DTSM-3
designator SW?
Tactile Switch SMD SPST; Manufacturer: Diptronics; Manufacturer Part Number: DTSM-3
footprint DTSM-3
pins: 1, 2

## EC10E1220503
designator U?
footprint EC10E1220503
pins: 1 A, 2 B, 3 GND

## ECS-2520MV-130-BN-TR
designator X?
Standard Clock Oscillators XO (Standard),13MHz,Standby (Power Down),CMOS, Multi-Volt,1.6 V 3.6 V,+/-50ppm,-40 C 85 C,6mA,Surface Mount,4-SMD, No Lead,(2.50mm x 2.00mm),(0.80mm); Manufacturer: ECS; Manufacturer Part Number: ECS-2520MV-130-BN-TR
footprint SSOP5
footprint XTAL_2520
pins: 1 EN (in), 2 GND (power), 3 OUT, 4 VDD (power)

## EDH476M100S9PAA
designator C?, comment 47u
Capacitor SMD Aluminium Electrolytic 10.3x10.3x10.2mm 47uF 100V 170mA 2000hrs; Manufacturer: KEMET; Manufacturer Part Number: 170mA
footprint EDH476M100S9PAA
pins: 1, 2
text: +

## EEEFK1C102SP
designator C?, comment 1000u
Capacitor SMD Aluminium Electrolytic 10mm x 10.2mm 16V 20% 2000hrs; Manufacturer: Panasonic; Manufacturer Part Number: EEEFK1C102SP; LCSC: C178532
footprint CAPAE120103X105N (Aluminum Electrolytic Capacitor, Body 10.30x10.30x10.50mm, IPC Medium Density)
pins: 1, 2
text: +

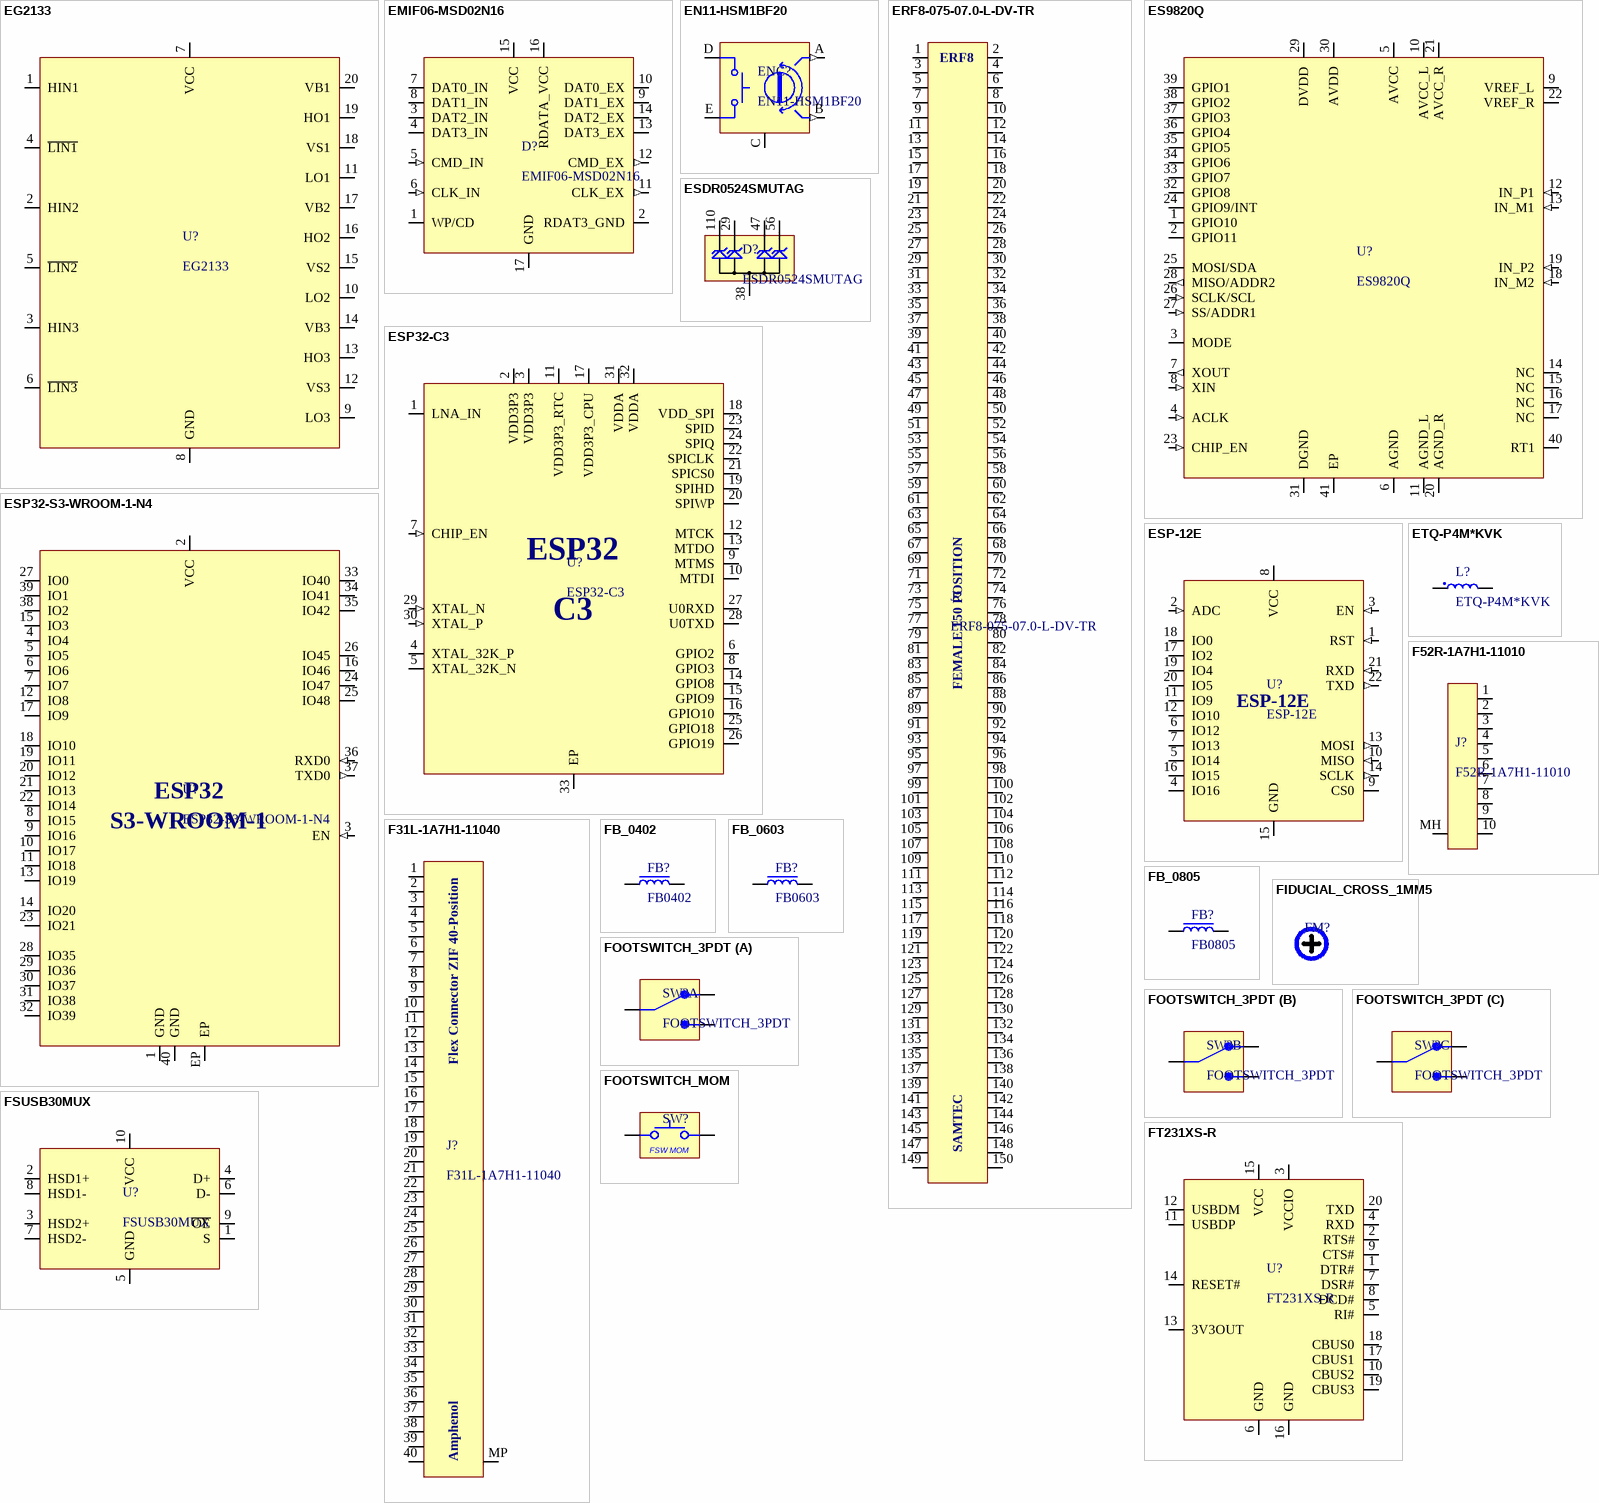
[diagram p9: symbols EG2133 to FT231XS-R]

## EG2133
designator U?
Triple Half-Bridge Gate Driver IC TSSOP-20; Manufacturer: EG Micro; Manufacturer Part Number: EG2133; LCSC Part #: C405330
footprint TSSOP-20 (TSOP, 20-Leads, Body 6,50x4,40mm, Pitch 0,65mm, IPC Medium Density)
pins: 1 HIN1, 2 HIN2, 3 HIN3, 4 ~{LIN1}, 5 ~{LIN2}, 6 ~{LIN3}, 7 VCC, 8 GND, 9 LO3, 10 LO2, 11 LO1, 12 VS3, 13 HO3, 14 VB3, 15 VS2, 16 HO2, 17 VB2, 18 VS1, 19 HO1, 20 VB1

## EMIF06-MSD02N16
designator D?
6-line IPAD EMI filter and ESD protection; Manufacturer: STMicroelectronics; Manufacturer Part Number: EMIF06-MSD02N16; Distributor Link: https://www.mouser.de/ProductDetail/STMicroelectronics/EMIF06-MSD02N16?qs=1CGoW%2F3pMwpSqVuN8kmN4Q%3D%3D; LCSC: C5267594
footprint uQFN-3_5x1_2-16L
pins: 1 WP/CD, 2 RDAT3_GND, 3 DAT2_IN (io), 4 DAT3_IN (io), 5 CMD_IN (in), 6 CLK_IN (in), 7 DAT0_IN (io), 8 DAT1_IN (io), 9 DAT1_EX (io), 10 DAT0_EX (io), 11 CLK_EX (out), 12 CMD_EX (out), 13 DAT3_EX (io), 14 DAT2_EX (io), 15 VCC (power), 16 RDATA_VCC (power), 17 GND (power)

## EN11-HSM1BF20
designator ENC?
Rotary Encoder with Switch 20 Detents 7mm Bushing 20mm Threaded Shaft Vertical; Manufacturer: TT Electronics; Manufacturer Part Number: EN11-HSM1BF20; Distributor Link: https://www.mouser.de/ProductDetail/BI-Technologies-TT-Electronics/EN11-HSM1BF20?qs=%252BUYXD5bnyXp4Uf1MU7v3zw%3D%3D
footprint EN11-HSM
pins: A (out), B (out), C GND (power), D, E

## ERF8-075-07.0-L-DV-TR
designator J?
Mezzanine Connector Female Samtec 0.80 mm Edge Rate® Rugged High Speed Socket; Manufacturer: Samtec; Manufacturer Part Number: ERF8-075-07.0-L-DV-TR
footprint ERF8-075-07.0-L-DV-TR
pins: 1, 2, 3, 4, 5, 6, 7, 8, 9, 10, 11, 12, 13, 14, 15, 16, 17, 18, 19, 20, 21, 22, 23, 24, 25, 26, 27, 28, 29, 30, 31, 32, 33, 34, 35, 36, 37, 38, 39, 40, 41, 42, 43, 44, 45, 46, 47, 48, 49, 50, 51, 52, 53, 54, 55, 56, 57, 58, 59, 60, 61, 62, 63, 64, 65, 66, 67, 68, 69, 70, 71, 72, 73, 74, 75, 76, 77, 78, 79, 80, 81, 82, 83, 84, 85, 86, 87, 88, 89, 90, 91, 92, 93, 94, 95, 96, 97, 98, 99, 100, 101, 102, 103, 104, 105, 106, 107, 108, 109, 110, 111, 112, 113, 114, 115, 116, 117, 118, 119, 120, 121, 122, 123, 124, 125, 126, 127, 128, 129, 130, 131, 132, 133, 134, 135, 136, 137, 138, 139, 140, 141, 142, 143, 144, 145, 146, 147, 148, 149, 150
text: ERF8; FEMALE 150 POSITION; SAMTEC

## ES9820Q
designator U?
32-bit High-Performance 2-Channel ADC; Manufacturer: ESS Technology; Manufacturer Part Number: ES9820Q
footprint QFN-40-0.4-EP (QFN 40 Pads 0.4mm Pitch Thermal Pad)
pins: 1 GPIO10 (io), 2 GPIO11 (io), 3 MODE, 4 ACLK (in), 5 AVCC (power), 6 AGND (power), 7 XOUT (out), 8 XIN (in), 9 VREF_L (power), 10 AVCC_L (power), 11 AGND_L (power), 12 IN_P1 (in), 13 IN_M1 (in), 14 NC, 15 NC, 16 NC (hiz), 17 NC, 18 IN_M2 (in), 19 IN_P2 (in), 20 AGND_R (power), 21 AVCC_R (power), 22 VREF_R (power), 23 CHIP_EN (in), 24 GPIO9/INT (io), 25 MOSI/SDA (io), 26 SCLK/SCL (in), 27 SS/ADDR1 (in), 28 MISO/ADDR2 (out), 29 DVDD (power), 30 AVDD (power), 31 DGND (power), 32 GPIO8 (io), 33 GPIO7 (io), 34 GPIO6 (io), 35 GPIO5 (io), 36 GPIO4 (io), 37 GPIO3 (io), 38 GPIO2 (io), 39 GPIO1 (io), 40 RT1, 41 EP (power)

## ESDR0524SMUTAG
designator D?
TVS Diode Array Low Capacitance ESD Protection 4-Channel (Vwork=5V, Vclamp=15V); Manufacturer: onsemi; Manufacturer Part Number: ESDR0524SMUTAG; Distributor Link: https://www.mouser.de/ProductDetail/onsemi/ESDR0524SMUTAG?qs=NJQfjRgVp6Qe%2FuopsuIgOg%3D%3D; LCSC: C890633
footprint uDFN-10-WIDE
pins: 29, 38 GND, 47, 56, 110

## ESP32-C3
designator U?
Ultra­Low­Power SoC with RISC­V Single­Core CPU Supporting IEEE 802.11b/g/n (2.4 GHz Wi­Fi) and Bluetooth® 5 (LE); Manufacturer: Espressif; Manufacturer Part Number: ESP32-C3; LCSC: C2838500
footprint QFN32-5x5
pins: 1 LNA_IN (io), 2 VDD3P3 (power), 3 VDD3P3 (power), 4 XTAL_32K_P (io), 5 XTAL_32K_N (io), 6 GPIO2 (io), 7 CHIP_EN (in), 8 GPIO3 (io), 9 MTMS (io), 10 MTDI (io), 11 VDD3P3_RTC (power), 12 MTCK (io), 13 MTDO (io), 14 GPIO8 (io), 15 GPIO9 (io), 16 GPIO10 (io), 17 VDD3P3_CPU (power), 18 VDD_SPI (power), 19 SPIHD (io), 20 SPIWP (io), 21 SPICS0 (io), 22 SPICLK (io), 23 SPID (io), 24 SPIQ (io), 25 GPIO18 (io), 26 GPIO19 (io), 27 U0RXD (io), 28 U0TXD (io), 29 XTAL_N (in), 30 XTAL_P (in), 31 VDDA (power), 32 VDDA (power), 33 EP (power)
text: ESP32; C3

## ESP32-S3-WROOM-1-N4
designator U?
2.4 GHz Wi-Fi (802.11 b/g/n) and Bluetooth 5 (LE) Module ESP32-S3, 4MB Flash, on-board PCB antenna); Manufacturer: Espressif; Manufacturer Part Number: ESP32-S3-WROOM-1-N4; Distributor Link: https://www.mouser.de/ProductDetail/Espressif-Systems/ESP32-S3-WROOM-1-N4?qs=Li%252BoUPsLEnsO%2FkiJOUK0FQ%3D%3D
footprint ESP32-S3-WROOM-1
pins: 1 GND (power), 2 VCC (power), 3 EN (in), 4 IO4 (io), 5 IO5 (io), 6 IO6 (io), 7 IO7 (io), 8 IO15 (io), 9 IO16 (io), 10 IO17 (io), 11 IO18 (io), 12 IO8 (io), 13 IO19 (io), 14 IO20 (io), 15 IO3 (io), 16 IO46 (io), 17 IO9 (io), 18 IO10 (io), 19 IO11 (io), 20 IO12 (io), 21 IO13 (io), 22 IO14 (io), 23 IO21 (io), 24 IO47 (io), 25 IO48 (io), 26 IO45 (io), 27 IO0 (io), 28 IO35 (io), 29 IO36 (io), 30 IO37 (io), 31 IO38 (io), 32 IO39 (io), 33 IO40 (io), 34 IO41 (io), 35 IO42 (io), 36 RXD0 (in), 37 TXD0 (out), 38 IO2 (io), 39 IO1 (io), 40 GND (power), EP (power)
text: ESP32; S3-WROOM-1

## ESP-12E
designator U?
ESP8266 ESP-12E Module (ESP8266, Castellated Holes); Manufacturer: AI-THINKER; Manufacturer Part Number: ESP-12E; Distributor Link: *
footprint ESP-12E
pins: 1 RST (in), 2 ADC (in), 3 EN (in), 4 IO16 (io), 5 IO14 (io), 6 IO12 (io), 7 IO13 (io), 8 VCC (power), 9 CS0 (io), 10 MISO (in), 11 IO9 (io), 12 IO10 (io), 13 MOSI (out), 14 SCLK (out), 15 GND (power), 16 IO15 (io), 17 IO2 (io), 18 IO0 (io), 19 IO4 (io), 20 IO5 (io), 21 RXD (in), 22 TXD (out)

## ETQ-P4M*KVK
designator L?
Inductor Power SMD PCC-M0840M-LP Series; Manufacturer: Panasonic; Manufacturer Part Number: ETQ-P4M*KVK; Distributor Link: *; LCSC: *
footprint IND_1008
footprint ETQP4M-KVK
pins: 1, 2

## F31L-1A7H1-11040
designator J?
Flex Connector, 0.50mm Pitch, Height 2.55mm, Right angle, Flip type, ZIF, 40 position; Manufacturer: Amphenol; Manufacturer Part Number: F31L-1A7H1-11040; Distributor Link: https://www.mouser.de/ProductDetail/Amphenol-Aorora/F31L-1A7H1-11040?qs=xZ%2FP%252Ba9zWqYDodVHBk05qA%3D%3D
footprint F31L-1A7H1-11040
pins: 1, 2, 3, 4, 5, 6, 7, 8, 9, 10, 11, 12, 13, 14, 15, 16, 17, 18, 19, 20, 21, 22, 23, 24, 25, 26, 27, 28, 29, 30, 31, 32, 33, 34, 35, 36, 37, 38, 39, 40, MP
text: Flex Connector ZIF 40-Position

## F52R-1A7H1-11010
designator J?
FFC/FPC Connector 1.00mm Pitch Bottom Contact ZIF 10 Positions; Manufacturer: Amphenol; Manufacturer Part Number: F52R-1A7H1-11010
footprint F52R-1A7H1-11010
pins: 1, 2, 3, 4, 5, 6, 7, 8, 9, 10, MH

## FB_0402
designator FB?, comment FB0402
Ferrite Bead SMD 0402; Manufacturer: *; Manufacturer Part Number: *; Distributor Link: *; LCSC: *
footprint FB_0402
pins: 1, 2

## FB_0603
designator FB?, comment FB0603
Ferrite Bead SMD 0603; Manufacturer: *; Manufacturer Part Number: *; Distributor Link: *; LCSC: *
footprint FB_0603 (Ferrite Bead 0603)
pins: 1, 2

## FB_0805
designator FB?, comment FB0805
Ferrite Bead SMD 0805; Manufacturer: *; Manufacturer Part Number: *; Distributor Link: *; LCSC: *
footprint FB_0805
pins: 1, 2

## FIDUCIAL_CROSS_1MM5
designator FM?, comment Fiducial Marker  (value not drawn)  (no BOM)
Fiducial Marker Cross 1.5mm NO BOM
footprint FIDUCIAL_CROSS_1MM5

## FOOTSWITCH_3PDT
designator SW?
Generic 3PDT Footswitch; Manufacturer: *; Manufacturer Part Number: *; Link: https://lovemyswitches.com/3pdt-latched-foot-switch-solder-lugs-black/
footprint FOOTSWITCH_3PDT
part A pins: COM1, NC1, NO1
part B pins: COM2, NC2, NO2
part C pins: COM3, NC3, NO3

## FOOTSWITCH_MOM
designator SW?  (value not drawn)
Header 2.54mm THT for Momentary SPST Footswitch
footprint SKRPANE010
footprint FOOTSWITCH_MOM
pins: 1, 2
text: FSW MOM

## FSUSB30MUX
designator U?
USB 2.0 High-Speed Switch MSOP-10; Manufacturer: ONSemi; Manufacturer Part Number: FSUSB30MUX
footprint MSOP-10
pins: 1 S, 2 HSD1+, 3 HSD2+, 4 D+, 5 GND, 6 D-, 7 HSD2-, 8 HSD1-, 9 ~{OE}, 10 VCC

## FT231XS-R
designator U?
USB Interface IC USB to Full Serial UART IC SSOP-20; Manufacturer: FTDI; Manufacturer Part Number: FT231XS-R
footprint SSOP20
pins: 1 DTR#, 2 RTS#, 3 VCCIO, 4 RXD, 5 RI#, 6 GND, 7 DSR#, 8 DCD#, 9 CTS#, 10 CBUS2, 11 USBDP, 12 USBDM, 13 3V3OUT, 14 RESET#, 15 VCC, 16 GND, 17 CBUS1, 18 CBUS0, 19 CBUS3, 20 TXD

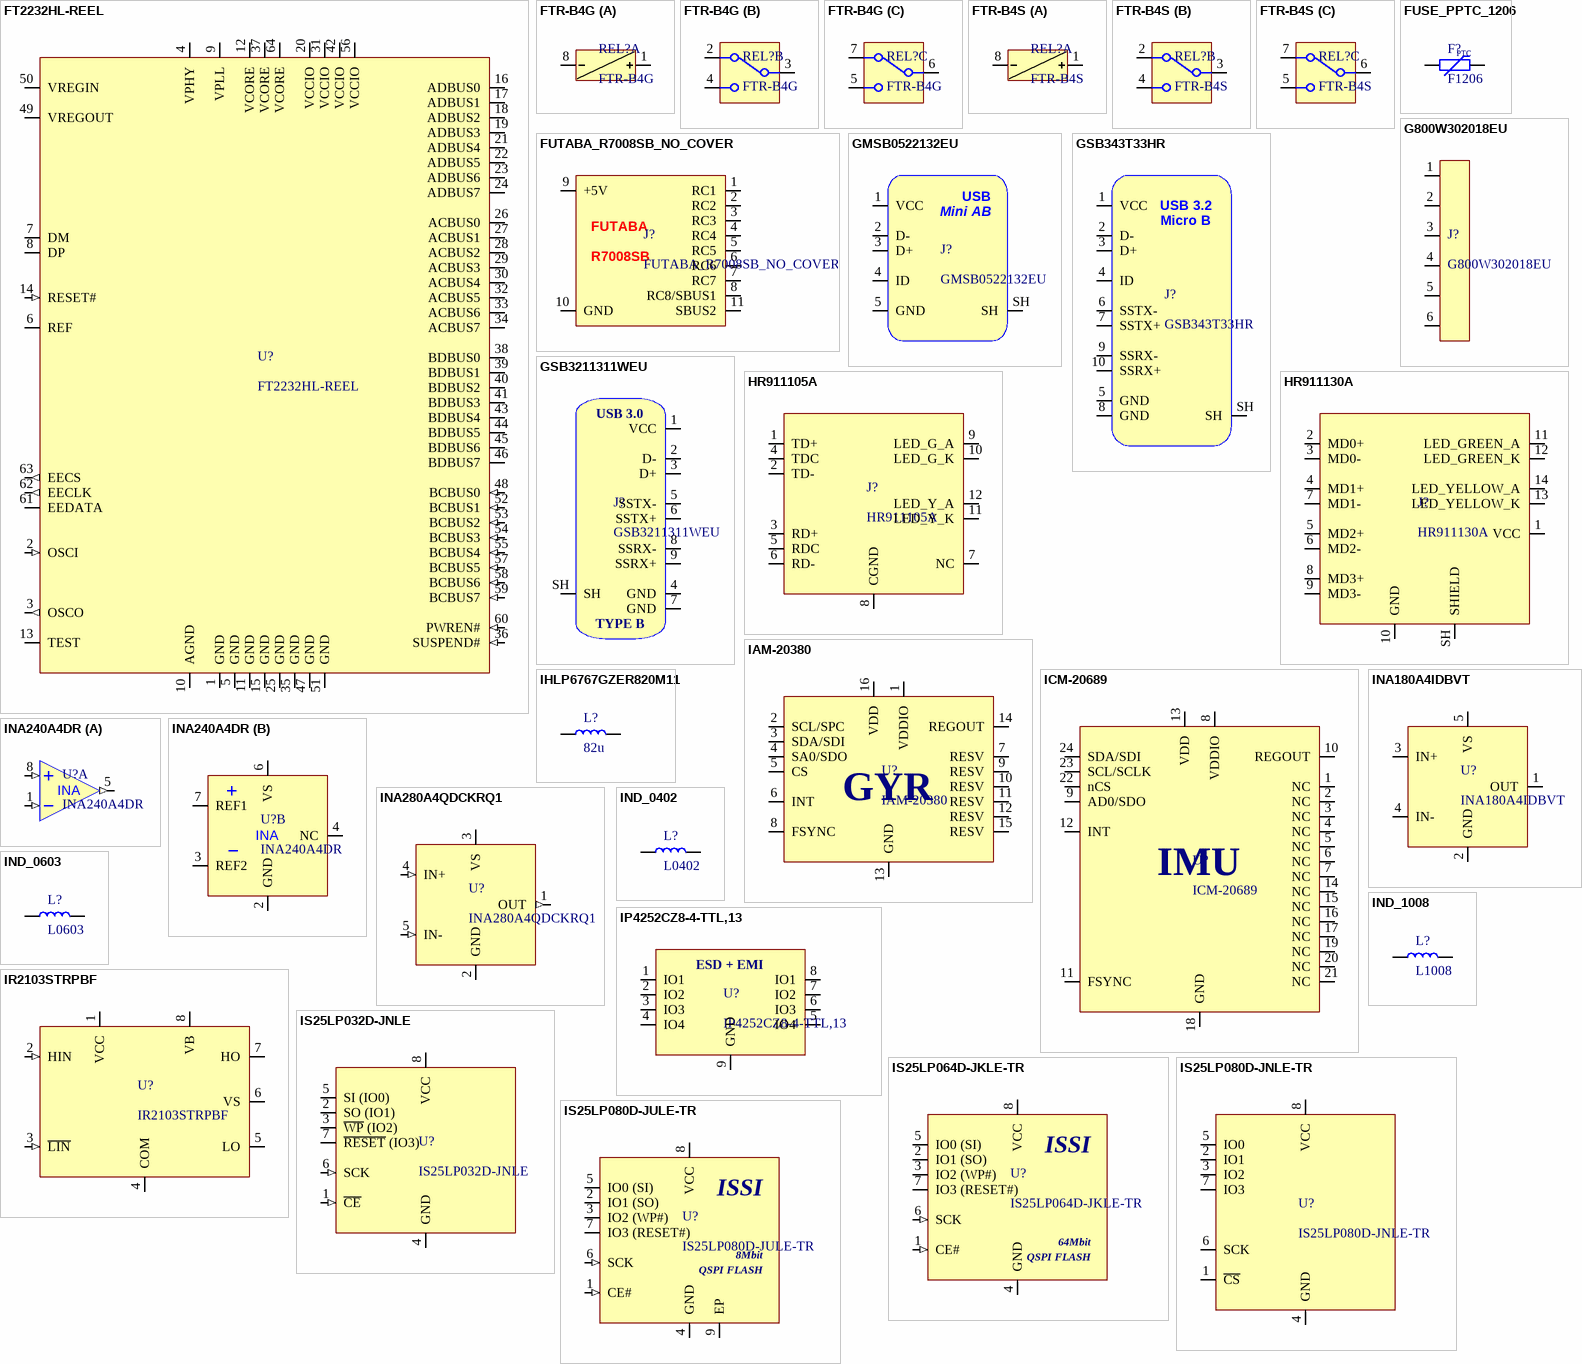
[diagram p10: symbols FT2232HL-REEL to IS25LP080D-JULE-TR]

## FT2232HL-REEL
designator U?
Hi-Speed Dual USB UART/FIFO IC; Manufacturer: FTDI; Manufacturer Part Number: FT2232HL-REEL; Distributor Link: https://www.mouser.de/ProductDetail/FTDI/FT2232HL-REEL?qs=D1%2FPMqvA100v7FHcEx164g%3D%3D; LCSC: C27882
footprint LQFP-64-0.5mm (TSQFP, 64-Leads, Body 10.00x10.00mm, Pitch 0.50mm, IPC Medium Density)
pins: 1 GND (power), 2 OSCI (in), 3 OSCO (out), 4 VPHY (power), 5 GND (power), 6 REF, 7 DM (io), 8 DP (io), 9 VPLL (power), 10 AGND (power), 11 GND (power), 12 VCORE (power), 13 TEST, 14 RESET# (in), 15 GND (power), 16 ADBUS0 (io), 17 ADBUS1 (io), 18 ADBUS2 (io), 19 ADBUS3 (io), 20 VCCIO (power), 21 ADBUS4 (io), 22 ADBUS5 (io), 23 ADBUS6 (io), 24 ADBUS7 (io), 25 GND (power), 26 ACBUS0 (io), 27 ACBUS1 (io), 28 ACBUS2 (io), 29 ACBUS3 (io), 30 ACBUS4 (io), 31 VCCIO (power), 32 ACBUS5 (io), 33 ACBUS6 (io), 34 ACBUS7 (io), 35 GND (power), 36 SUSPEND# (in), 37 VCORE (power), 38 BDBUS0 (io), 39 BDBUS1 (io), 40 BDBUS2 (io), 41 BDBUS3 (io), 42 VCCIO (power), 43 BDBUS4 (io), 44 BDBUS5 (io), 45 BDBUS6 (io), 46 BDBUS7 (io), 47 GND (power), 48 BCBUS0 (in), 49 VREGOUT (power), 50 VREGIN (power), 51 GND (power), 52 BCBUS1 (in), 53 BCBUS2 (in), 54 BCBUS3 (in), 55 BCBUS4 (in), 56 VCCIO (power), 57 BCBUS5 (in), 58 BCBUS6 (in), 59 BCBUS7 (in), 60 PWREN# (in), 61 EEDATA (io), 62 EECLK (out), 63 EECS (out), 64 VCORE (power)

## FTR-B4G
designator REL?
Ultra-Miniature Relay DPDT SMT; Manufacturer: Fujitsu; Manufacturer Part Number: FTR-B4G
footprint FTR-B4G
part A pins: 1 VCC, 8 VSS
part B pins: 2 NC1, 3 COM1, 4 NO1
part C pins: 5 NO2, 6 COM2, 7 NC2

## FTR-B4S
designator REL?
Ultra-Miniature Relay DPDT Space-Saving; Manufacturer: Fujitsu; Manufacturer Part Number: FTR-B4S
footprint FTR-B4S
part A pins: 1 VCC, 8 VSS
part B pins: 2 NC1, 3 COM1, 4 NO1
part C pins: 5 NO2, 6 COM2, 7 NC2

## FUSE_PPTC_1206
designator F?, comment F1206
Fuse PPTC SMD 1206; Manufacturer: *; Manufacturer Part Number: *
footprint FUSE_1206
pins: 1, 2
text: PTC

## FUTABA_R7008SB_NO_COVER
designator J?  (no BOM)
Futaba R7008SB Solder Pads
footprint FUTABA_R7008SB_NO_COVER
pins: 1 RC1, 2 RC2, 3 RC3, 4 RC4, 5 RC5, 6 RC6, 7 RC7, 8 RC8/SBUS1, 9 +5V, 10 GND, 11 SBUS2
text: FUTABA; R7008SB

## G800W302018EU
designator J?
Pin Header 6 Position 2.54mm Pitch; Manufacturer: Amphenol; Manufacturer Part Number: G800W302018EU
footprint G800W302018EU
pins: 1, 2, 3, 4, 5, 6

## GMSB0522132EU
designator J?
USB 2.0 Mini AB Receptacle Right Angle Through-Hole; Manufacturer: Amphenol; Manufacturer Part Number: GMSB0522132EU
footprint GMSB0522132EU
pins: 1 VCC (power), 2 D- (io), 3 D+ (io), 4 ID, 5 GND (power), SH (power)
text: USB; Mini AB

## GSB343T33HR
designator J?
Micro USB 3.2, Type B, Receptacle, Right Angle SMT, High Rise, 5.25mm Height, 10 Pins, Shell with Nickel Plating, 30μin Gold, Black Housing; Manufacturer: Amphenol; Manufacturer Part Number: GSB343T33HR; Distributor Link: https://www.mouser.de/ProductDetail/Amphenol-Commercial-Products/GSB343T33HR?qs=8nwx9VzGl4wjI7K6xpTSyQ%3D%3D; LCSC: C5428255
footprint GSB343T33HR
pins: 1 VCC (power), 2 D- (power), 3 D+ (power), 4 ID, 5 GND (power), 6 SSTX- (io), 7 SSTX+ (io), 8 GND (power), 9 SSRX- (io), 10 SSRX+ (io), SH
text: USB 3.2; Micro B

## GSB3211311WEU
designator J?
USB Connector Type B 3.0 Through-Hole; Manufacturer: Amphenol; Manufacturer Part Number: GSB3211311WEU
footprint GSB3211311WEU
pins: 1 VCC, 2 D-, 3 D+, 4 GND, 5 SSTX-, 6 SSTX+, 7 GND, 8 SSRX-, 9 SSRX+, SH
text: USB 3.0; TYPE B

## HR911105A
designator J?
Single Port RJ45 Connector w/ Integrated Magnetic and LED 10/100 Base-T; Manufacturer: HanRun; Manufacturer Part Number: HR911105A
footprint HR911105A
pins: 1 TD+, 2 TD-, 3 RD+, 4 TDC, 5 RDC, 6 RD-, 7 NC, 8 CGND, 9 LED_G_A, 10 LED_G_K, 11 LED_Y_K, 12 LED_Y_A

## HR911130A
designator J?
100/1000Base-T Magnetics Single-Port RJ45 Connector with Integrated Magnetics and LEDs; Manufacturer: Hanrun; Manufacturer Part Number: HR911130A
footprint HR911130A
pins: 1 VCC, 2 MD0+, 3 MD0-, 4 MD1+, 5 MD2+, 6 MD2-, 7 MD1-, 8 MD3+, 9 MD3-, 10 GND, 11 LED_GREEN_A, 12 LED_GREEN_K, 13 LED_YELLOW_K, 14 LED_YELLOW_A, SH SHIELD

## IAM-20380
designator U?
High Performance MEMS Gyroscope 3-Axis I2C/SPI; Manufacturer: TDK InvenSense; Manufacturer Part Number: IAM-20380
footprint QFN50P300X300X80_HS-17N (QFN, 16-Leads, Body 3.00x3.00mm, Pitch 0.50mm, Thermal Pad 1.00x1.00mm, IPC Medium Density)
pins: 1 VDDIO, 2 SCL/SPC, 3 SDA/SDI, 4 SA0/SDO, 5 CS, 6 INT, 7 RESV, 8 FSYNC, 9 RESV, 10 RESV, 11 RESV, 12 RESV, 13 GND, 14 REGOUT, 15 RESV, 16 VDD
text: GYR

## ICM-20689
designator U?
High Performance 6-Axis MEMS IMU; Manufacturer: TDK InvenSense; Manufacturer Part Number: ICM-20689
footprint QFN50P400X400X95_HS-25N (QFN, 24-Leads, Body 4.00x4.00mm, Pitch 0.50mm, Thermal Pad 2.60x2.70mm, IPC Medium Density)
pins: 1 NC, 2 NC, 3 NC, 4 NC, 5 NC, 6 NC, 7 NC, 8 VDDIO, 9 AD0/SDO, 10 REGOUT, 11 FSYNC, 12 INT, 13 VDD, 14 NC, 15 NC, 16 NC, 17 NC, 18 GND, 19 NC, 20 NC, 21 NC, 22 nCS, 23 SCL/SCLK, 24 SDA/SDI
text: IMU

## IHLP6767GZER820M11
designator L?, comment 82u
Inductor SMD Vishay IHLP6767GZER820M11; Manufacturer: Vishay; Manufacturer Part Number: IHLP6767GZER820M11
footprint IHLP6767GZER820M11
pins: 1, 2

## INA180A4IDBVT
designator U?
Current Sense Amplifier 200V/V Gain 105kHz BW SOT-23-5; Manufacturer: Texas Instruments; Manufacturer Part Number: INA180A4IDBVT
footprint SOT-23-5 (SOT23, 5-Leads, Body 2,90x2,80mm, Pitch 0,95mm, IPC Medium Density)
pins: 1 OUT, 2 GND, 3 IN+, 4 IN-, 5 VS

## INA240A4DR
designator U?
INA240 –4-V to 80-V, Bidirectional, Ultra-Precise Current Sense Amplifier With / Enhanced PWM Rejection, Gain=200V/V; Manufacturer: Texas Instruments; Manufacturer Part Number: INA240A4DR
footprint SOIC-8 (SOIC, 8-Leads, Body 4.91x3.90mm, Pitch 1.27mm, IPC Medium Density)
part A pins: 1 IN- (in), 5 OUT (out), 8 IN+ (in)
part B pins: 2 GND, 3 REF2, 4 NC, 6 VS, 7 REF1
part A text: INA
part B text: INA

## INA280A4QDCKRQ1
designator U?
2.7-V to 120-V, 1.1-MHz, High Precision Current Sense Amplifier Gain 200V/V SC-70-5; Manufacturer: Texas Instruments; Manufacturer Part Number: INA280A4QDCKRQ1
footprint SC-70-5
pins: 1 OUT (out), 2 GND (power), 3 VS (power), 4 IN+ (in), 5 IN- (in)

## IND_0402
designator L?, comment L0402
Inductor SMD 0402
footprint IND_0402
pins: 1, 2

## IND_0603
designator L?, comment L0603
Inductor SMD 0603
footprint IND_0603
pins: 1, 2

## IND_1008
designator L?, comment L1008
Inductor SMD 1008
footprint IND_1008
pins: 1, 2

## IP4252CZ8-4-TTL,13
designator U?
Integrated 4 passive filter network / with ESD protection C=12pF Vwork=5.6V
footprint SON40P140X55_HS-9N (SON, 8-Leads, Body 1,70x1,35mm, Pitch 0,40mm, Thermal Pad 1,20x0,24mm, IPC Medium Density)
pins: 1 IO1, 2 IO2, 3 IO3, 4 IO4, 5 IO4, 6 IO3, 7 IO2, 8 IO1, 9 GND
text: ESD + EMI

## IR2103STRPBF
designator U?
Half-Bridge Driver SOIC-8; Manufacturer: Infineon Technologies; Manufacturer Part Number: IR2103STRPBF
footprint SOIC-8 (SOIC, 8-Leads, Body 4.91x3.90mm, Pitch 1.27mm, IPC Medium Density)
pins: 1 VCC (power), 2 HIN (in), 3 ~{LIN} (in), 4 COM (power), 5 LO (power), 6 VS (power), 7 HO (power), 8 VB (power)

## IS25LP032D-JNLE
designator U?
32Mb SERIAL FLASH MEMORY WITH 133MHZ MULTI I/O SPI & / QUAD I/O QPI DTR INTERFACE SOIC-8; Manufacturer: ISSI; Manufacturer Part Number: IS25LP032D-JNLE
footprint SOIC-8 (SOIC, 8-Leads, Body 4.91x3.90mm, Pitch 1.27mm, IPC Medium Density)
pins: 1 ~{CE} (in), 2 SO (IO1) (io), 3 ~{WP} (IO2) (io), 4 GND (power), 5 SI (IO0) (io), 6 SCK (in), 7 ~{RESET} (IO3) (io), 8 VCC (power)

## IS25LP064D-JKLE-TR
designator U?
64Mb SERIAL FLASH MEMORY WITH 166MHZ MULTI I/O SPI & QUAD I/O QPI DTR INTERFACE WSON-8 (6x5mm); Manufacturer: ISSI; Manufacturer Part Number: IS25LP064D-JKLE-TR
footprint WSON-8-6x5mm
pins: 1 CE# (in), 2 IO1 (SO) (io), 3 IO2 (WP#) (io), 4 GND (power), 5 IO0 (SI) (io), 6 SCK (in), 7 IO3 (RESET#) (io), 8 VCC
text: 64Mbit; QSPI FLASH

## IS25LP080D-JNLE-TR
designator U?
QSPI NOR Flash Memory 8 Mbit SOIC-8; Manufacturer: ISSI; Manufacturer Part Number: IS25LP080D-JNLE-TR
footprint SOIC-8 (SOIC, 8-Leads, Body 4.91x3.90mm, Pitch 1.27mm, IPC Medium Density)
pins: 1 ~{CS}, 2 IO1, 3 IO2, 4 GND (power), 5 IO0, 6 SCK, 7 IO3, 8 VCC (power)

## IS25LP080D-JULE-TR
designator U?
8Mb SERIAL FLASH MEMORY WITH 133MHZ MULTI I/O SPI & QUAD I/O QPI DTR INTERFACE WSON-8 (6x5mm); Manufacturer: ISSI; Manufacturer Part Number: IS25LP080D-JULE-TR
footprint USON-8-2X3MM
pins: 1 CE# (in), 2 IO1 (SO) (io), 3 IO2 (WP#) (io), 4 GND (power), 5 IO0 (SI) (io), 6 SCK (in), 7 IO3 (RESET#) (io), 8 VCC, 9 EP (power)
text: 8Mbit; QSPI FLASH

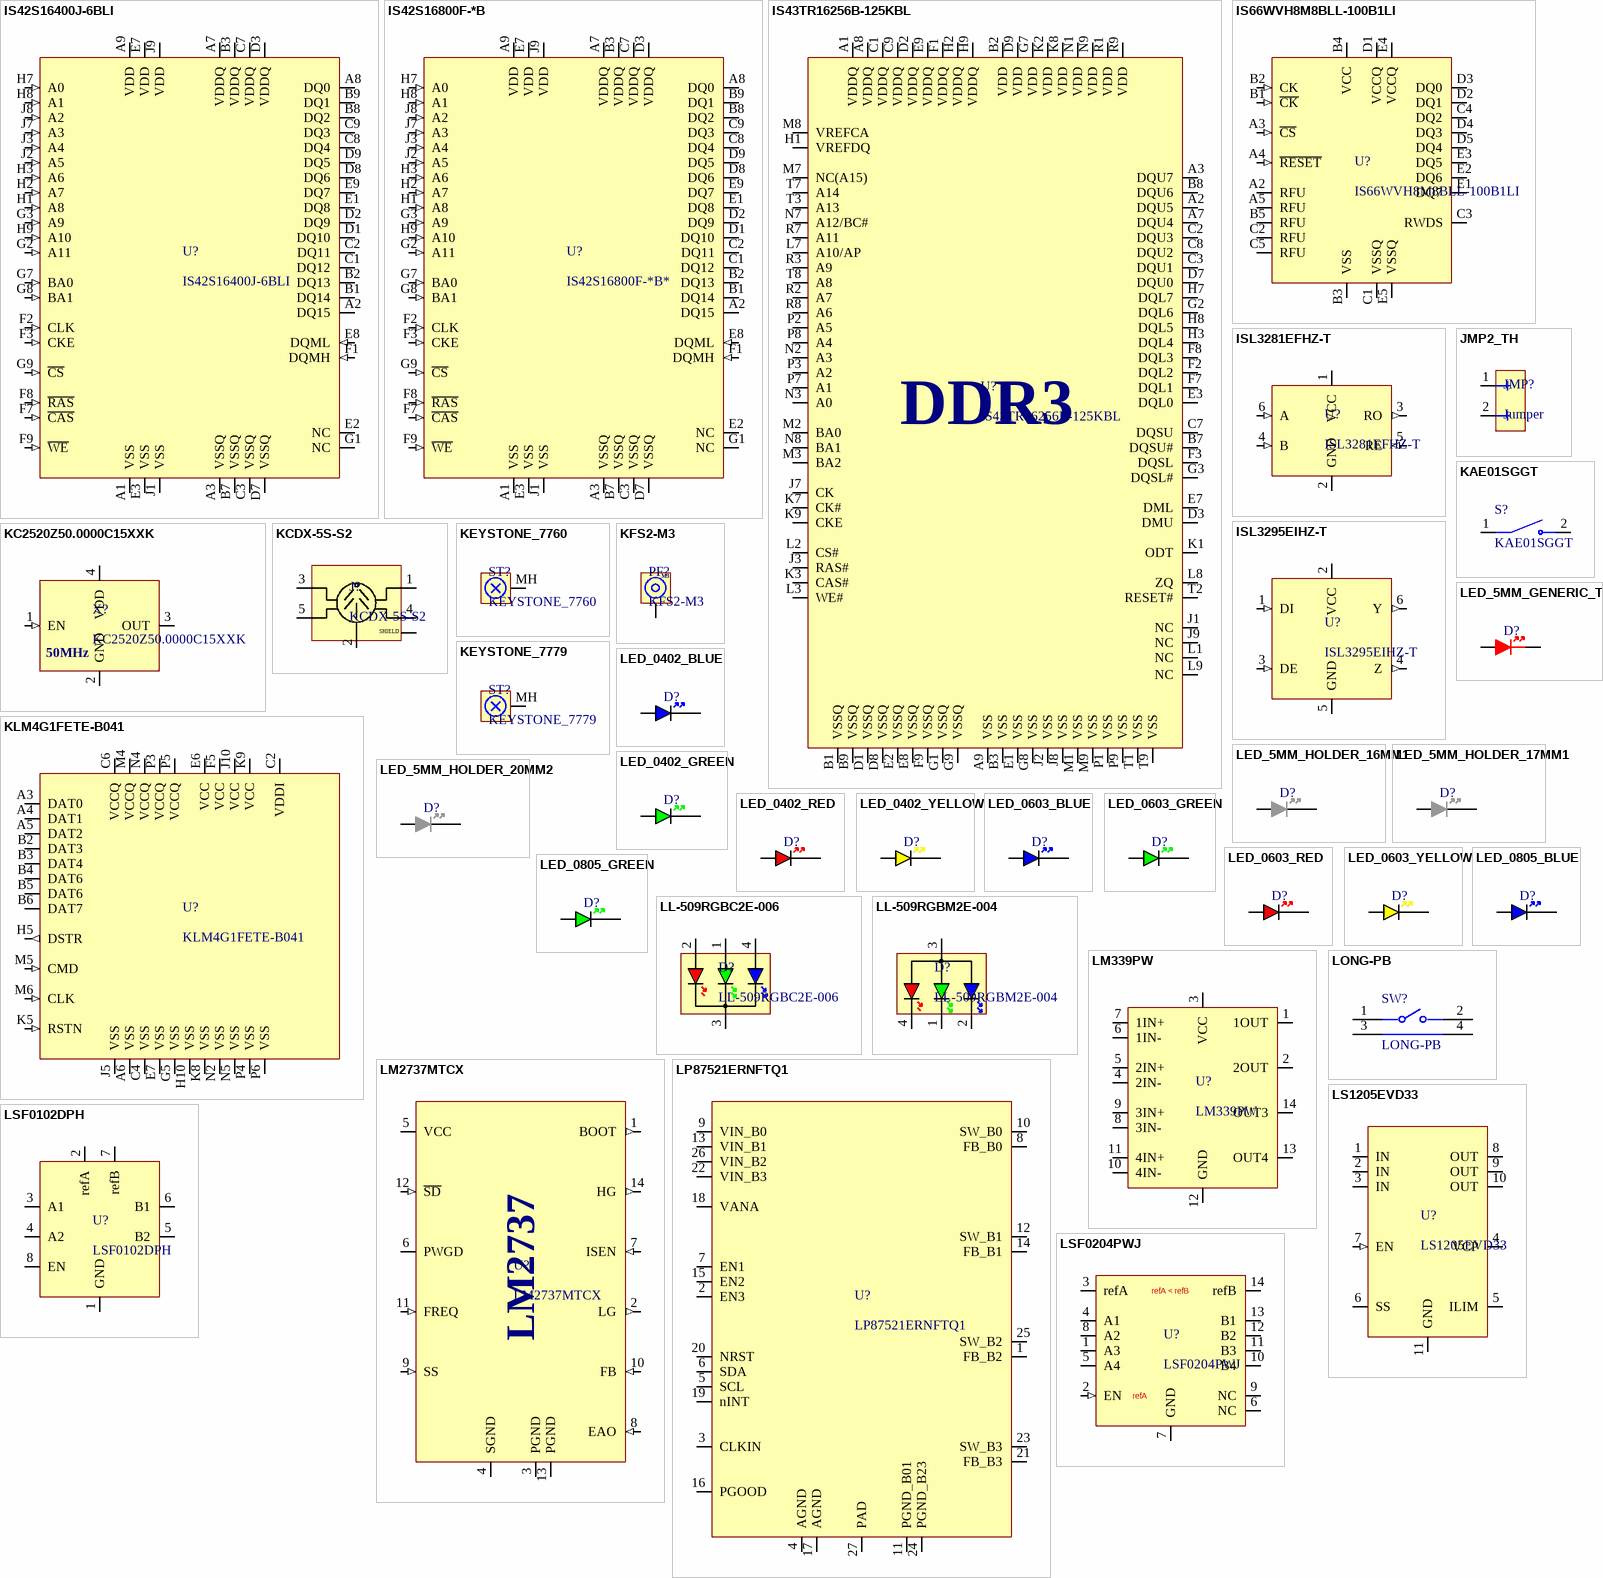
[diagram p11: symbols IS42S16400J-6BLI to LSF0204PWJ]

## IS42S16400J-6BLI
designator U?
SDRAM 64Mbit 8Mx16 166Mhz 3.3V 54-ball BGA; Manufacturer: ISSI; Manufacturer Part Number: IS42S16400J-6BLI; Distributor Link: https://www.mouser.de/ProductDetail/ISSI/IS42S16400J-6BLI?qs=Fza4peKjXe%2F8S88YWH645Q%3D%3D
footprint BGA54C80P9X9_800X800X120 (BGA, 54-Leads, Body 8.00x8.00mmx1.20mm, Pitch 0.80mm)
pins: A1 VSS (power), A2 DQ15 (io), A3 VSSQ (power), A7 VDDQ (power), A8 DQ0 (io), A9 VDD (power), B1 DQ14 (io), B2 DQ13 (io), B3 VDDQ (power), B7 VSSQ (power), B8 DQ2 (io), B9 DQ1 (io), C1 DQ12 (io), C2 DQ11 (io), C3 VSSQ (power), C7 VDDQ (power), C8 DQ4 (io), C9 DQ3 (io), D1 DQ10 (io), D2 DQ9 (io), D3 VDDQ (power), D7 VSSQ (power), D8 DQ6 (io), D9 DQ5 (io), E1 DQ8 (io), E2 NC, E3 VSS (power), E7 VDD (power), E8 DQML (in), E9 DQ7 (io), F1 DQMH (in), F2 CLK (in), F3 CKE (in), F7 ~{CAS} (in), F8 ~{RAS} (in), F9 ~{WE} (in), G1 NC, G2 A11 (in), G3 A9 (in), G7 BA0 (in), G8 BA1 (in), G9 ~{CS} (in), H1 A8 (in), H2 A7 (in), H3 A6 (in), H7 A0 (in), H8 A1 (in), H9 A10 (in), J1 VSS (power), J2 A5 (in), J3 A4 (in), J7 A3 (in), J8 A2 (in), J9 VDD (power)

## IS42S16800F-*B
designator U?, comment IS42S16800F-*B*
SDRAM 128Mbit 8Mx16 143Mhz 3.3V 54-ball BGA; Manufacturer: ISSI; Manufacturer Part Number: IS42S16800F-*B*
footprint BGA54C80P9X9_800X800X120 (BGA, 54-Leads, Body 8.00x8.00mmx1.20mm, Pitch 0.80mm)
pins: A1 VSS (power), A2 DQ15 (io), A3 VSSQ (power), A7 VDDQ (power), A8 DQ0 (io), A9 VDD (power), B1 DQ14 (io), B2 DQ13 (io), B3 VDDQ (power), B7 VSSQ (power), B8 DQ2 (io), B9 DQ1 (io), C1 DQ12 (io), C2 DQ11 (io), C3 VSSQ (power), C7 VDDQ (power), C8 DQ4 (io), C9 DQ3 (io), D1 DQ10 (io), D2 DQ9 (io), D3 VDDQ (power), D7 VSSQ (power), D8 DQ6 (io), D9 DQ5 (io), E1 DQ8 (io), E2 NC, E3 VSS (power), E7 VDD (power), E8 DQML (in), E9 DQ7 (io), F1 DQMH (in), F2 CLK (in), F3 CKE (in), F7 ~{CAS} (in), F8 ~{RAS} (in), F9 ~{WE} (in), G1 NC, G2 A11 (in), G3 A9 (in), G7 BA0 (in), G8 BA1 (in), G9 ~{CS} (in), H1 A8 (in), H2 A7 (in), H3 A6 (in), H7 A0 (in), H8 A1 (in), H9 A10 (in), J1 VSS (power), J2 A5 (in), J3 A4 (in), J7 A3 (in), J8 A2 (in), J9 VDD (power)

## IS43TR16256B-125KBL
designator U?
DRAM 4GBit, 1.5V, DDR3, 256Mx16, 1600MT/s @ 11-11-11, 96 ball BGA (9mm x13mm) RoHS; Manufacturer: ISSI; Manufacturer Part Number: IS43TR16256B-125KBL
footprint BGA96C80P9X16_900X1300X120 (BGA, 96-Leads, Body 9.00x13.00mmx1.20mm, Pitch 0.80mm)
pins: A1 VDDQ, A2 DQU5, A3 DQU7, A7 DQU4, A8 VDDQ, A9 VSS, B1 VSSQ, B2 VDD, B3 VSS, B7 DQSU#, B8 DQU6, B9 VSSQ, C1 VDDQ, C2 DQU3, C3 DQU1, C7 DQSU, C8 DQU2, C9 VDDQ, D1 VSSQ, D2 VDDQ, D3 DMU, D7 DQU0, D8 VSSQ, D9 VDD, E1 VSS, E2 VSSQ, E3 DQL0, E7 DML, E8 VSSQ, E9 VDDQ, F1 VDDQ, F2 DQL2, F3 DQSL, F7 DQL1, F8 DQL3, F9 VSSQ, G1 VSSQ, G2 DQL6, G3 DQSL#, G7 VDD, G8 VSS, G9 VSSQ, H1 VREFDQ, H2 VDDQ, H3 DQL4, H7 DQL7, H8 DQL5, H9 VDDQ, J1 NC, J2 VSS, J3 RAS#, J7 CK, J8 VSS, J9 NC, K1 ODT, K2 VDD, K3 CAS#, K7 CK#, K8 VDD, K9 CKE, L1 NC, L2 CS#, L3 WE#, L7 A10/AP, L8 ZQ, L9 NC, M1 VSS, M2 BA0, M3 BA2, M7 NC(A15), M8 VREFCA, M9 VSS, N1 VDD, N2 A3, N3 A0, N7 A12/BC#, N8 BA1, N9 VDD, P1 VSS, P2 A5, P3 A2, P7 A1, P8 A4, P9 VSS, R1 VDD, R2 A7, R3 A9, R7 A11, R8 A6, R9 VDD, T1 VSS, T2 RESET#, T3 A13, T7 A14, T8 A8, T9 VSS
text: DDR3

## IS66WVH8M8BLL-100B1LI
designator U?
64Mbit (8Mx8) HyperRAM 100MHz; Manufacturer: ISSI; Manufacturer Part Number: IS66WVH8M8BLL-100B1LI; Distributor Link: https://www.mouser.de/ProductDetail/ISSI/IS66WVH8M8BLL-100B1LI?qs=K1oHB112QgngRH5bU%252BIWKA%3D%3D
footprint TFBGA-24-6X8X1MM2
pins: A2 RFU, A3 ~{CS} (in), A4 ~{RESET} (in), A5 RFU, B1 ~{CK} (in), B2 CK (in), B3 VSS (power), B4 VCC (power), B5 RFU, C1 VSSQ (power), C2 RFU, C3 RWDS (io), C4 DQ2 (io), C5 RFU, D1 VCCQ (power), D2 DQ1 (io), D3 DQ0 (io), D4 DQ3 (io), D5 DQ4 (io), E1 DQ7 (io), E2 DQ6 (io), E3 DQ5 (io), E4 VCCQ (power), E5 VSSQ (power)

## ISL3281EFHZ-T
designator U?
RS-485/RS-422 Single Receiver 3.0V to 5.5V ESD Protected; Manufacturer: Renesas Electronics; Manufacturer Part Number: ISL3281EFHZ-T
footprint SOT-23-6
pins: 1 VCC (power), 2 GND (power), 3 RO (out), 4 B (in), 5 RE (in), 6 A (in)

## ISL3295EIHZ-T
designator U?
RS-485/RS-422 Transmitter, ±16.5kV ESD Protected, +125°C, 3.0V to 5.5V, SOT-23-6, Low Power; Manufacturer: Renesas; Manufacturer Part Number: ISL3295EIHZ-T
footprint SOT-23-6
pins: 1 DI (in), 2 VCC (power), 3 DE (in), 4 Z (out), 5 GND (power), 6 Y (out)

## JMP2_TH
designator JMP?, comment Jumper
Jumper 2 Pins Through-Hole DO NOT PLACE
footprint JMP2_TH
pins: 1, 2

## KAE01SGGT
designator S?
Dip Switch SPST 1 Position Surface Mount Slide (Standard) Actuator 25mA 24VDC; MF: E-Switch; Check_prices: https://www.snapeda.com/parts/KAE01SGGT/E-Switch/view-part/?ref=eda; Value: *; Availability: In Stock; MP: KAE01SGGT; Price: None; Package: None; SnapEDA_Link: https://www.snapeda.com/parts/KAE01SGGT/E-Switch/view-part/?ref=snap; Purchase-URL: https://pricing.snapeda.com/search/part/KAE01SGGT/?ref=eda
footprint SW_KAE01SGGT
pins: 1, 2